# Altium integrated library texas.IntLib: 210 symbols (part 2 of 3)
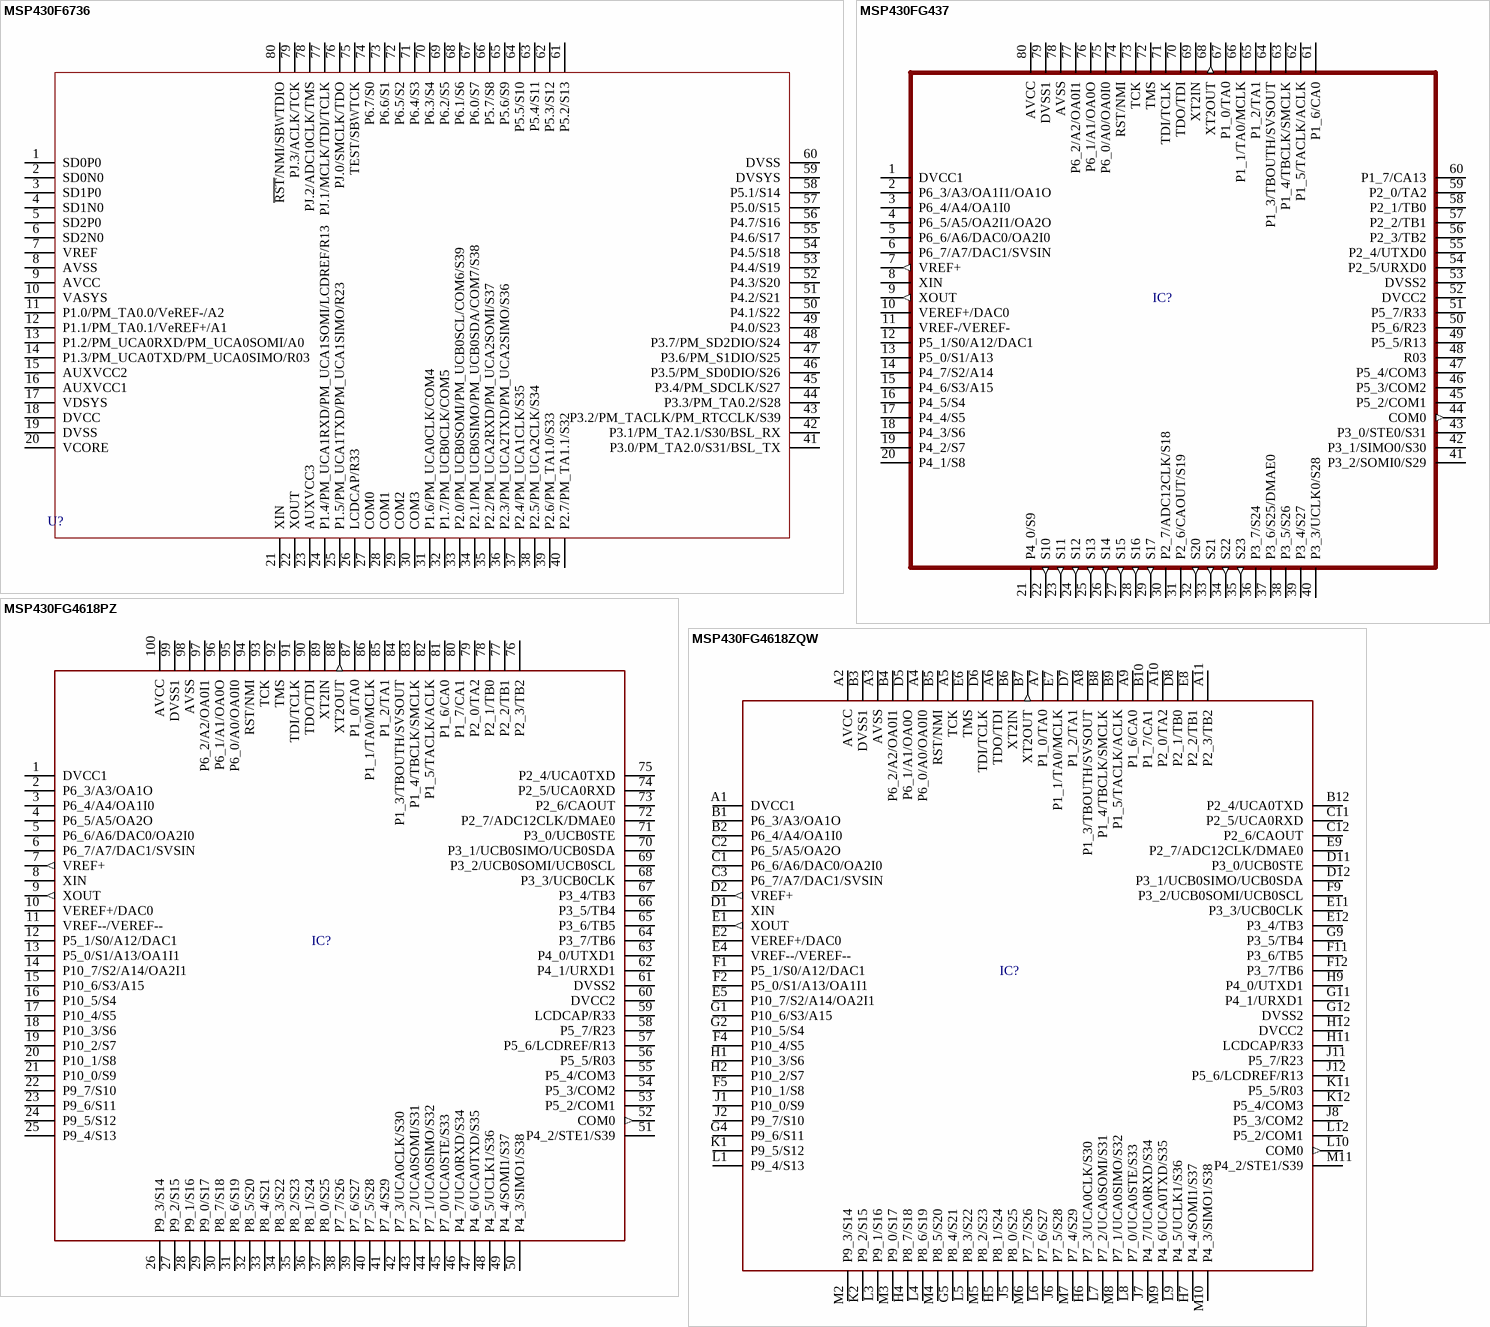
[diagram p14: symbols MSP430F6736 to MSP430FG4618ZQW]

## MSP430FG4618PZ
designator IC?, comment <b>MIXED SIGNAL MICROCONTROLLER</b><p> / Auto generated by <i>make-symbol-device-package-bsdl.ulp Rev. 19</i><br> / Source: http://focus.ti.com/docs/prod/folders/print/msp430fg4618.html  (value not drawn)
Part Number: MSP430FG4618IPZ; Vendor: TEXAS INSTRUMENTS
footprint TQFP100
pins: 1 DVCC1 (power), 2 P6_3/A3/OA1O, 3 P6_4/A4/OA1I0, 4 P6_5/A5/OA2O, 5 P6_6/A6/DAC0/OA2I0, 6 P6_7/A7/DAC1/SVSIN, 7 VREF+ (out), 8 XIN, 9 XOUT (out), 10 VEREF+/DAC0, 11 VREF--/VEREF--, 12 P5_1/S0/A12/DAC1, 13 P5_0/S1/A13/OA1I1, 14 P10_7/S2/A14/OA2I1, 15 P10_6/S3/A15, 16 P10_5/S4, 17 P10_4/S5, 18 P10_3/S6, 19 P10_2/S7, 20 P10_1/S8, 21 P10_0/S9, 22 P9_7/S10, 23 P9_6/S11, 24 P9_5/S12, 25 P9_4/S13, 26 P9_3/S14, 27 P9_2/S15, 28 P9_1/S16, 29 P9_0/S17, 30 P8_7/S18, 31 P8_6/S19, 32 P8_5/S20, 33 P8_4/S21, 34 P8_3/S22, 35 P8_2/S23, 36 P8_1/S24, 37 P8_0/S25, 38 P7_7/S26, 39 P7_6/S27, 40 P7_5/S28, 41 P7_4/S29, 42 P7_3/UCA0CLK/S30, 43 P7_2/UCA0SOMI/S31, 44 P7_1/UCA0SIMO/S32, 45 P7_0/UCA0STE/S33, 46 P4_7/UCA0RXD/S34, 47 P4_6/UCA0TXD/S35, 48 P4_5/UCLK1/S36, 49 P4_4/SOMI1/S37, 50 P4_3/SIMO1/S38, 51 P4_2/STE1/S39, 52 COM0 (out), 53 P5_2/COM1, 54 P5_3/COM2, 55 P5_4/COM3, 56 P5_5/R03, 57 P5_6/LCDREF/R13, 58 P5_7/R23, 59 LCDCAP/R33, 60 DVCC2 (power), 61 DVSS2 (power), 62 P4_1/URXD1, 63 P4_0/UTXD1, 64 P3_7/TB6, 65 P3_6/TB5, 66 P3_5/TB4, 67 P3_4/TB3, 68 P3_3/UCB0CLK, 69 P3_2/UCB0SOMI/UCB0SCL, 70 P3_1/UCB0SIMO/UCB0SDA, 71 P3_0/UCB0STE, 72 P2_7/ADC12CLK/DMAE0, 73 P2_6/CAOUT, 74 P2_5/UCA0RXD, 75 P2_4/UCA0TXD, 76 P2_3/TB2, 77 P2_2/TB1, 78 P2_1/TB0, 79 P2_0/TA2, 80 P1_7/CA1, 81 P1_6/CA0, 82 P1_5/TACLK/ACLK, 83 P1_4/TBCLK/SMCLK, 84 P1_3/TBOUTH/SVSOUT, 85 P1_2/TA1, 86 P1_1/TA0/MCLK, 87 P1_0/TA0, 88 XT2OUT (out), 89 XT2IN, 90 TDO/TDI, 91 TDI/TCLK, 92 TMS, 93 TCK, 94 RST/NMI, 95 P6_0/A0/OA0I0, 96 P6_1/A1/OA0O, 97 P6_2/A2/OA0I1, 98 AVSS (power), 99 DVSS1 (power), 100 AVCC (power)

## MSP430FG4618ZQW
designator IC?, comment <b>MIXED SIGNAL MICROCONTROLLER</b><p> / Auto generated by <i>make-symbol-device-package-bsdl.ulp Rev. 19</i><br> / Source: http://focus.ti.com/docs/prod/folders/print/msp430fg4618.html  (value not drawn)
Part Number: MSP430FG4618IZQW; Vendor: TEXAS INSTRUMENTS
footprint S-PBGA-N113
pins: A1 DVCC1 (power), A2 AVCC (power), A3 AVSS (power), A4 P6_0/A0/OA0I0, A5 TCK, A6 TDO/TDI, A7 P1_0/TA0, A8 P1_3/TBOUTH/SVSOUT, A9 P1_6/CA0, A10 P2_0/TA2, A11 P2_3/TB2, B1 P6_3/A3/OA1O, B2 P6_4/A4/OA1I0, B3 DVSS1 (power), B4 P6_2/A2/OA0I1, B5 RST/NMI, B6 XT2IN, B7 XT2OUT (out), B8 P1_4/TBCLK/SMCLK, B9 P1_5/TACLK/ACLK, B10 P1_7/CA1, B12 P2_4/UCA0TXD, C1 P6_6/A6/DAC0/OA2I0, C2 P6_5/A5/OA2O, C3 P6_7/A7/DAC1/SVSIN, C11 P2_5/UCA0RXD, C12 P2_6/CAOUT, D1 XIN, D2 VREF+ (out), D5 P6_1/A1/OA0O, D6 TDI/TCLK, D7 P1_2/TA1, D8 P2_1/TB0, D11 P3_0/UCB0STE, D12 P3_1/UCB0SIMO/UCB0SDA, E1 XOUT (out), E2 VEREF+/DAC0, E4 VREF--/VEREF--, E5 P10_7/S2/A14/OA2I1, E6 TMS, E7 P1_1/TA0/MCLK, E8 P2_2/TB1, E9 P2_7/ADC12CLK/DMAE0, E11 P3_3/UCB0CLK, E12 P3_4/TB3, F1 P5_1/S0/A12/DAC1, F2 P5_0/S1/A13/OA1I1, F4 P10_4/S5, F5 P10_1/S8, F9 P3_2/UCB0SOMI/UCB0SCL, F11 P3_6/TB5, F12 P3_7/TB6, G1 P10_6/S3/A15, G2 P10_5/S4, G4 P9_6/S11, G5 P8_4/S21, G9 P3_5/TB4, G11 P4_1/URXD1, G12 DVSS2 (power), H1 P10_3/S6, H2 P10_2/S7, H4 P8_7/S18, H5 P8_1/S24, H6 P7_3/UCA0CLK/S30, H7 P4_4/SOMI1/S37, H9 P4_0/UTXD1, H11 LCDCAP/R33, H12 DVCC2 (power), J1 P10_0/S9, J2 P9_7/S10, J5 P8_0/S25, J6 P7_5/S28, J7 P4_7/UCA0RXD/S34, J8 P5_3/COM2, J11 P5_7/R23, J12 P5_6/LCDREF/R13, K1 P9_5/S12, K2 P9_2/S15, K11 P5_5/R03, K12 P5_4/COM3, L1 P9_4/S13, L3 P9_1/S16, L4 P8_6/S19, L5 P8_3/S22, L6 P7_6/S27, L7 P7_2/UCA0SOMI/S31, L8 P7_0/UCA0STE/S33, L9 P4_5/UCLK1/S36, L10 COM0 (out), L12 P5_2/COM1, M2 P9_3/S14, M3 P9_0/S17, M4 P8_5/S20, M5 P8_2/S23, M6 P7_7/S26, M7 P7_4/S29, M8 P7_1/UCA0SIMO/S32, M9 P4_6/UCA0TXD/S35, M10 P4_3/SIMO1/S38, M11 P4_2/STE1/S39

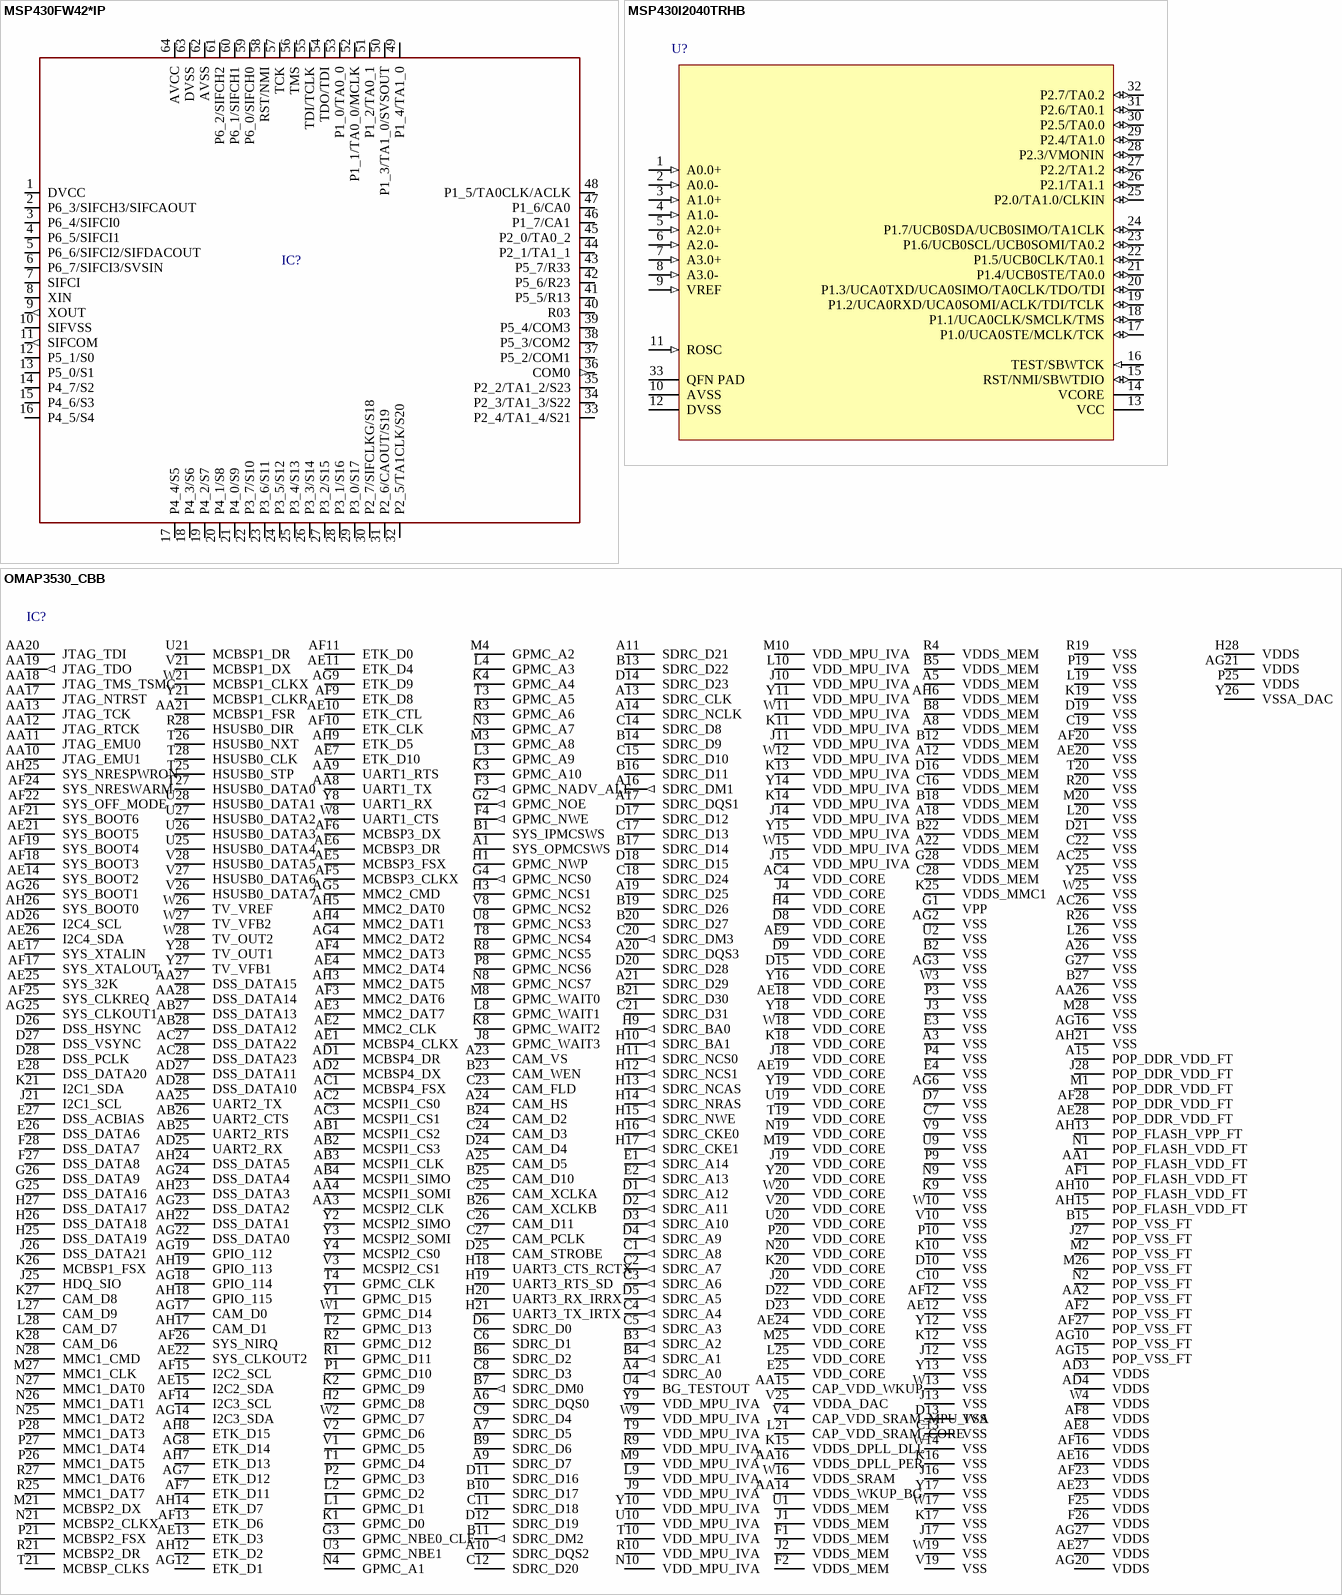
[diagram p6: symbols MSP430FW42*IP to OMAP3530_CBB]

## MSP430FW42*IP
designator IC?, comment <b>MIXED SIGNAL MICROCONTROLLER</b><p> / <i>created with make-symbol-device-package-bsdl - text option</i><br> / Source: www.ti.com .. MSP430 Microcontroller.pdf  (value not drawn)
Vendor: TEXAS INSTRUMENTS
footprint SQFP-S-10X10-64
pins: 1 DVCC (power), 2 P6_3/SIFCH3/SIFCAOUT, 3 P6_4/SIFCI0, 4 P6_5/SIFCI1, 5 P6_6/SIFCI2/SIFDACOUT, 6 P6_7/SIFCI3/SVSIN, 7 SIFCI, 8 XIN, 9 XOUT (out), 10 SIFVSS, 11 SIFCOM (out), 12 P5_1/S0, 13 P5_0/S1, 14 P4_7/S2, 15 P4_6/S3, 16 P4_5/S4, 17 P4_4/S5, 18 P4_3/S6, 19 P4_2/S7, 20 P4_1/S8, 21 P4_0/S9, 22 P3_7/S10, 23 P3_6/S11, 24 P3_5/S12, 25 P3_4/S13, 26 P3_3/S14, 27 P3_2/S15, 28 P3_1/S16, 29 P3_0/S17, 30 P2_7/SIFCLKG/S18, 31 P2_6/CAOUT/S19, 32 P2_5/TA1CLK/S20, 33 P2_4/TA1_4/S21, 34 P2_3/TA1_3/S22, 35 P2_2/TA1_2/S23, 36 COM0 (out), 37 P5_2/COM1, 38 P5_3/COM2, 39 P5_4/COM3, 40 R03, 41 P5_5/R13, 42 P5_6/R23, 43 P5_7/R33, 44 P2_1/TA1_1, 45 P2_0/TA0_2, 46 P1_7/CA1, 47 P1_6/CA0, 48 P1_5/TA0CLK/ACLK, 49 P1_4/TA1_0, 50 P1_3/TA1_0/SVSOUT, 51 P1_2/TA0_1, 52 P1_1/TA0_0/MCLK, 53 P1_0/TA0_0, 54 TDO/TDI, 55 TDI/TCLK, 56 TMS, 57 TCK, 58 RST/NMI, 59 P6_0/SIFCH0, 60 P6_1/SIFCH1, 61 P6_2/SIFCH2, 62 AVSS (power), 63 DVSS (power), 64 AVCC (power)

## MSP430I2040TRHB
designator U?
Part Number: MSP430I2040TRHB; Vendor: TEXAS INSTRUMENTS; Value: *
footprint QFN32-5x5 (QFN, 32-Leads, Body 5x5mm, Pitch 0.5mm, Thermal Pad 3.45x3.45mm, IPC Medium Density)
pins: 1 A0.0+ (in) "SD24 positive analog input A0.0.", 2 A0.0- (in) "SD24 negative analog input A0.0.", 3 A1.0+ (in) "SD24 positive analog input A1.0.", 4 A1.0- (in) "SD24 negative analog input A1.0.", 5 A2.0+ (in) "SD24 positive analog input A2.0.", 6 A2.0- (in) "SD24 negative analog input A2.0.", 7 A3.0+ (in) "SD24 positive analog input A1.0.", 8 A3.0- (in) "SD24 negative analog input A3.0.", 9 VREF (in) "SD24 external reference voltage input.", 10 AVSS (power) "Analog supply voltage, negative terminal.", 11 ROSC (in) "External resistor pin for DCO.", 12 DVSS (power) "Digital supply voltage, negative terminal.", 13 VCC (power) "Analog and digital supply voltage, positive terminal.", 14 VCORE "Regulated core power supply (internal use only, no external current loading).", 15 RST/NMI/SBWTDIO (io), 16 TEST/SBWTCK (in) "Selects test mode for JTAG pins on P1.0 to P1.3. Spy-Bi-Wire test clock input for device programming and test.", 17 P1.0/UCA0STE/MCLK/TCK (io), 18 P1.1/UCA0CLK/SMCLK/TMS (io), 19 P1.2/UCA0RXD/UCA0SOMI/ACLK/TDI/TCLK (io), 20 P1.3/UCA0TXD/UCA0SIMO/TA0CLK/TDO/TDI (io), 21 P1.4/UCB0STE/TA0.0 (io), 22 P1.5/UCB0CLK/TA0.1 (io), 23 P1.6/UCB0SCL/UCB0SOMI/TA0.2 (io), 24 P1.7/UCB0SDA/UCB0SIMO/TA1CLK (io), 25 P2.0/TA1.0/CLKIN (io), 26 P2.1/TA1.1 (io), 27 P2.2/TA1.2 (io), 28 P2.3/VMONIN (io), 29 P2.4/TA1.0 (io), 30 P2.5/TA0.0 (io), 31 P2.6/TA0.1 (io), 32 P2.7/TA0.2 (io), 33 QFN PAD (power) "QFN package pad. Connection to VSS is recommended."

## OMAP3530_CBB
designator IC?, comment <b>OMAP3530/25 Applications Processor</b> 600-MHz ARM Cortex?-A8 Core<p> / Auto generated by <i>make-symbol-device-package-bsdl.ulp Rev. 23</i><br> / Source: sprm315.bsd  (value not drawn)
Vendor: TEXAS INSTRUMENTS
footprint CBB
pins: A1 SYS_OPMCSWS, A3 VSS (power), A4 SDRC_A0 (out), A5 VDDS_MEM (power), A6 SDRC_DQS0, A7 SDRC_D5, A8 VDDS_MEM (power), A9 SDRC_D7, A10 SDRC_DQS2, A11 SDRC_D21, A12 VDDS_MEM (power), A13 SDRC_CLK, A14 SDRC_NCLK, A15 POP_DDR_VDD_FT (power), A16 SDRC_DM1 (out), A17 SDRC_DQS1, A18 VDDS_MEM (power), A19 SDRC_D25, A20 SDRC_DQS3, A21 SDRC_D29, A22 VDDS_MEM (power), A23 CAM_VS, A24 CAM_HS, A25 CAM_D5, A26 VSS (power), AA1 POP_FLASH_VDD_FT (power), AA2 POP_VSS_FT (power), AA3 MCSPI2_CLK, AA4 MCSPI1_SOMI, AA8 UART1_TX, AA9 UART1_RTS, AA10 JTAG_EMU1, AA11 JTAG_EMU0, AA12 JTAG_RTCK, AA13 JTAG_TCK, AA14 VDDS_WKUP_BG (power), AA15 CAP_VDD_WKUP (power), AA16 VDDS_DPLL_PER (power), AA17 JTAG_NTRST, AA18 JTAG_TMS_TSMC, AA19 JTAG_TDO (out), AA20 JTAG_TDI, AA21 MCBSP1_FSR, AA25 UART2_TX, AA26 VSS (power), AA27 DSS_DATA15, AA28 DSS_DATA14, AB1 MCSPI1_CS2, AB2 MCSPI1_CS3, AB3 MCSPI1_CLK, AB4 MCSPI1_SIMO, AB25 UART2_RTS, AB26 UART2_CTS, AB27 DSS_DATA13, AB28 DSS_DATA12, AC1 MCBSP4_FSX, AC2 MCSPI1_CS0, AC3 MCSPI1_CS1, AC4 VDD_CORE (power), AC25 VSS (power), AC26 VSS (power), AC27 DSS_DATA22, AC28 DSS_DATA23, AD1 MCBSP4_DR, AD2 MCBSP4_DX, AD3 VDDS (power), AD4 VDDS (power), AD25 UART2_RX, AD26 I2C4_SCL, AD27 DSS_DATA11, AD28 DSS_DATA10, AE1 MCBSP4_CLKX, AE2 MMC2_CLK, AE3 MMC2_DAT7, AE4 MMC2_DAT4, AE5 MCBSP3_FSX, AE6 MCBSP3_DR, AE7 ETK_D10, AE8 VDDS (power), AE9 VDD_CORE (power), AE10 ETK_CTL, AE11 ETK_D4, AE12 VSS (power), AE13 ETK_D3, AE14 SYS_BOOT2, AE15 I2C2_SDA, AE16 VDDS (power), AE17 SYS_XTALIN, AE18 VDD_CORE (power), AE19 VDD_CORE (power), AE20 VSS (power), AE21 SYS_BOOT5, AE22 SYS_CLKOUT2, AE23 VDDS (power), AE24 VDD_CORE (power), AE25 SYS_32K, AE26 I2C4_SDA, AE27 VDDS (power), AE28 POP_DDR_VDD_FT (power), AF1 POP_FLASH_VDD_FT (power), AF2 POP_VSS_FT (power), AF3 MMC2_DAT6, AF4 MMC2_DAT3, AF5 MCBSP3_CLKX, AF6 MCBSP3_DX, AF7 ETK_D11, AF8 VDDS (power), AF9 ETK_D8, AF10 ETK_CLK, AF11 ETK_D0, AF12 VSS (power), AF13 ETK_D6, AF14 I2C3_SCL, AF15 I2C2_SCL, AF16 VDDS (power), AF17 SYS_XTALOUT, AF18 SYS_BOOT3, AF19 SYS_BOOT4, AF20 VSS (power), AF21 SYS_BOOT6, AF22 SYS_OFF_MODE, AF23 VDDS (power), AF24 SYS_NRESWARM, AF25 SYS_CLKREQ, AF26 SYS_NIRQ, AF27 POP_VSS_FT (power), AF28 POP_DDR_VDD_FT (power), AG2 VSS (power), AG3 VSS (power), AG4 MMC2_DAT2, AG5 MMC2_CMD, AG6 VSS (power), AG7 ETK_D12, AG8 ETK_D14, AG9 ETK_D9, AG10 POP_VSS_FT (power), AG12 ETK_D1, AG14 I2C3_SDA, AG15 POP_VSS_FT (power), AG16 VSS (power), AG17 CAM_D0, AG18 GPIO_114, AG19 GPIO_112, AG20 VDDS (power), AG21 VDDS (power), AG22 DSS_DATA0, AG23 DSS_DATA2, AG24 DSS_DATA4, AG25 SYS_CLKOUT1, AG26 SYS_BOOT1, AG27 VDDS (power), AH3 MMC2_DAT5, AH4 MMC2_DAT1, AH5 MMC2_DAT0, AH6 VDDS_MEM (power), AH7 ETK_D13, AH8 ETK_D15, AH9 ETK_D5, AH10 POP_FLASH_VDD_FT (power), AH12 ETK_D2, AH13 POP_FLASH_VPP_FT, AH14 ETK_D7, AH15 POP_FLASH_VDD_FT (power), AH17 CAM_D1, AH18 GPIO_115, AH19 GPIO_113, AH21 VSS (power), AH22 DSS_DATA1, AH23 DSS_DATA3, AH24 DSS_DATA5, AH25 SYS_NRESPWRON, AH26 SYS_BOOT0, B1 SYS_IPMCSWS, B2 VSS (power), B3 SDRC_A2 (out), B4 SDRC_A1 (out), B5 VDDS_MEM (power), B6 SDRC_D2, B7 SDRC_DM0 (out), B8 VDDS_MEM (power), B9 SDRC_D6, B10 SDRC_D17, B11 SDRC_DM2 (out), B12 VDDS_MEM (power), B13 SDRC_D22, B14 SDRC_D9, B15 POP_VSS_FT (power), B16 SDRC_D11, B17 SDRC_D14, B18 VDDS_MEM (power), B19 SDRC_D26, B20 SDRC_D27, B21 SDRC_D30, B22 VDDS_MEM (power), B23 CAM_WEN, B24 CAM_D2, B25 CAM_D10, B26 CAM_XCLKB, B27 VSS (power), C1 SDRC_A8 (out), C2 SDRC_A7 (out), C3 SDRC_A6 (out), C4 SDRC_A4 (out), C5 SDRC_A3 (out), C6 SDRC_D1, C7 VSS (power), C8 SDRC_D3, C9 SDRC_D4, C10 VSS (power), C11 SDRC_D18, C12 SDRC_D20, C13 VSS (power), C14 SDRC_D8, C15 SDRC_D10, C16 VDDS_MEM (power), C17 SDRC_D13, C18 SDRC_D24, C19 VSS (power), C20 SDRC_DM3 (out), C21 SDRC_D31, C22 VSS (power), C23 CAM_FLD, C24 CAM_D3, C25 CAM_XCLKA, C26 CAM_D11, C27 CAM_PCLK, C28 VDDS_MEM (power), D1 SDRC_A12 (out), D2 SDRC_A11 (out), D3 SDRC_A10 (out), D4 SDRC_A9 (out), D5 SDRC_A5 (out), D6 SDRC_D0, D7 VSS (power), D8 VDD_CORE (power), D9 VDD_CORE (power), D10 VSS (power), D11 SDRC_D16, D12 SDRC_D19, D13 VSS (power), D14 SDRC_D23, D15 VDD_CORE (power), D16 VDDS_MEM (power), D17 SDRC_D12, D18 SDRC_D15, D19 VSS (power), D20 SDRC_D28, D21 VSS (power), D22 VDD_CORE (power), D23 VDD_CORE (power), D24 CAM_D4, D25 CAM_STROBE, D26 DSS_HSYNC, D27 DSS_VSYNC, D28 DSS_PCLK, E1 SDRC_A14 (out), E2 SDRC_A13 (out), E3 VSS (power), E4 VSS (power), E25 VDD_CORE (power), E26 DSS_DATA6, E27 DSS_ACBIAS, E28 DSS_DATA20, F1 VDDS_MEM (power), F2 VDDS_MEM (power), F3 GPMC_NADV_ALE (out), F4 GPMC_NWE (out), F25 VDDS (power), F26 VDDS (power), F27 DSS_DATA8, F28 DSS_DATA7, G1 VPP, G2 GPMC_NOE (out), G3 GPMC_NBE0_CLE, G4 GPMC_NCS0 (out), G25 DSS_DATA16, G26 DSS_DATA9, G27 VSS (power), G28 VDDS_MEM (power), H1 GPMC_NWP, H2 GPMC_D8, H3 GPMC_NCS1, H4 VDD_CORE (power), H9 SDRC_BA0 (out), H10 SDRC_BA1 (out), H11 SDRC_NCS0 (out), H12 SDRC_NCS1 (out), H13 SDRC_NCAS (out), H14 SDRC_NRAS (out), H15 SDRC_NWE (out), H16 SDRC_CKE0 (out), H17 SDRC_CKE1 (out), H18 UART3_CTS_RCTX, H19 UART3_RTS_SD, H20 UART3_RX_IRRX, H21 UART3_TX_IRTX, H25 DSS_DATA19, H26 DSS_DATA18, H27 DSS_DATA17, H28 VDDS (power), J1 VDDS_MEM (power), J2 VDDS_MEM (power), J3 VSS (power), J4 VDD_CORE (power), J8 GPMC_WAIT3, J9 VDD_MPU_IVA (power), J10 VDD_MPU_IVA (power), J11 VDD_MPU_IVA (power), J12 VSS (power), J13 VSS (power), J14 VDD_MPU_IVA (power), J15 VDD_MPU_IVA (power), J16 VSS (power), J17 VSS (power), J18 VDD_CORE (power), J19 VDD_CORE (power), J20 VDD_CORE (power), J21 I2C1_SCL, J25 HDQ_SIO, J26 DSS_DATA21, J27 POP_VSS_FT (power), J28 POP_DDR_VDD_FT (power), K1 GPMC_D0, K2 GPMC_D9, K3 GPMC_A10, K4 GPMC_A4, K8 GPMC_WAIT2, K9 VSS (power), K10 VSS (power), K11 VDD_MPU_IVA (power), K12 VSS (power), K13 VDD_MPU_IVA (power), K14 VDD_MPU_IVA (power), K15 VDDS_DPLL_DLL (power), K16 VSS (power), K17 VSS (power), K18 VDD_CORE (power), K19 VSS (power), K20 VDD_CORE (power), K21 I2C1_SDA, K25 VDDS_MMC1 (power), K26 MCBSP1_FSX, K27 CAM_D8, K28 CAM_D6, L1 GPMC_D1, L2 GPMC_D2, L3 GPMC_A9, L4 GPMC_A3, L8 GPMC_WAIT1, L9 VDD_MPU_IVA (power), L10 VDD_MPU_IVA (power), L19 VSS (power), L20 VSS (power), L21 CAP_VDD_SRAM_CORE (power), L25 VDD_CORE (power), L26 VSS (power), L27 CAM_D9, L28 CAM_D7, M1 POP_DDR_VDD_FT (power), M2 POP_VSS_FT (power), M3 GPMC_A8, M4 GPMC_A2, M8 GPMC_WAIT0, M9 VDD_MPU_IVA (power), M10 VDD_MPU_IVA (power), M19 VDD_CORE (power), M20 VSS (power), M21 MCBSP2_DX, M25 VDD_CORE (power), M26 POP_VSS_FT (power), M27 MMC1_CLK, M28 VSS (power), N1 POP_FLASH_VDD_FT (power), N2 POP_VSS_FT (power), N3 GPMC_A7, N4 GPMC_A1, N8 GPMC_NCS7, N9 VSS (power), N10 VDD_MPU_IVA (power), N19 VDD_CORE (power), N20 VDD_CORE (power), N21 MCBSP2_CLKX, N25 MMC1_DAT2, N26 MMC1_DAT1, N27 MMC1_DAT0, N28 MMC1_CMD, P1 GPMC_D10, P2 GPMC_D3, P3 VSS (power), P4 VSS (power), P8 GPMC_NCS6, P9 VSS (power), P10 VSS (power), P19 VSS (power), P20 VDD_CORE (power), P21 MCBSP2_FSX, P25 VDDS (power), P26 MMC1_DAT5, P27 MMC1_DAT4, P28 MMC1_DAT3, R1 GPMC_D11, R2 GPMC_D12, R3 GPMC_A6, R4 VDDS_MEM (power), R8 GPMC_NCS5, R9 VDD_MPU_IVA (power), R10 VDD_MPU_IVA (power), R19 VSS (power), R20 VSS (power), R21 MCBSP2_DR, R25 MMC1_DAT7, R26 VSS (power), R27 MMC1_DAT6, R28 HSUSB0_DIR, T1 GPMC_D4, T2 GPMC_D13, T3 GPMC_A5, T4 GPMC_CLK, T8 GPMC_NCS4, T9 VDD_MPU_IVA (power), T10 VDD_MPU_IVA (power), T19 VDD_CORE (power), T20 VSS (power), T21 MCBSP_CLKS, T25 HSUSB0_STP, T26 HSUSB0_NXT, T27 HSUSB0_DATA0, T28 HSUSB0_CLK, U1 VDDS_MEM (power), U2 VSS (power), U3 GPMC_NBE1, U4 BG_TESTOUT, U8 GPMC_NCS3, U9 VSS (power), U10 VDD_MPU_IVA (power), U19 VDD_CORE (power), U20 VDD_CORE (power), U21 MCBSP1_DR, U25 HSUSB0_DATA4, U26 HSUSB0_DATA3, U27 HSUSB0_DATA2, U28 HSUSB0_DATA1, V1 GPMC_D5, V2 GPMC_D6, V3 MCSPI2_CS1, V4 CAP_VDD_SRAM_MPU_IVA (power), V8 GPMC_NCS2, V9 VSS (power), V10 VSS (power), V19 VSS (power), V20 VDD_CORE (power), V21 MCBSP1_DX, V25 VDDA_DAC (power), V26 HSUSB0_DATA7, V27 HSUSB0_DATA6, V28 HSUSB0_DATA5, W1 GPMC_D14, W2 GPMC_D7, W3 VSS (power), W4 VDDS (power), W8 UART1_CTS, W9 VDD_MPU_IVA (power), W10 VSS (power), W11 VDD_MPU_IVA (power), W12 VDD_MPU_IVA (power), W13 VSS (power), W14 VSS (power), W15 VDD_MPU_IVA (power), W16 VDDS_SRAM (power), W17 VSS (power), W18 VDD_CORE (power), W19 VSS (power), W20 VDD_CORE (power), W21 MCBSP1_CLKX, W25 VSS (power), W26 TV_VREF, W27 TV_VFB2, W28 TV_OUT2, Y1 GPMC_D15, Y2 MCSPI2_SIMO, Y3 MCSPI2_SOMI, Y4 MCSPI2_CS0, Y8 UART1_RX, Y9 VDD_MPU_IVA (power), Y10 VDD_MPU_IVA (power), Y11 VDD_MPU_IVA (power), Y12 VSS (power), Y13 VSS (power), Y14 VDD_MPU_IVA (power), Y15 VDD_MPU_IVA (power), Y16 VDD_CORE (power), Y17 VSS (power), Y18 VDD_CORE (power), Y19 VDD_CORE (power), Y20 VDD_CORE (power), Y21 MCBSP1_CLKR, Y25 VSS (power), Y26 VSSA_DAC (power), Y27 TV_VFB1, Y28 TV_OUT1

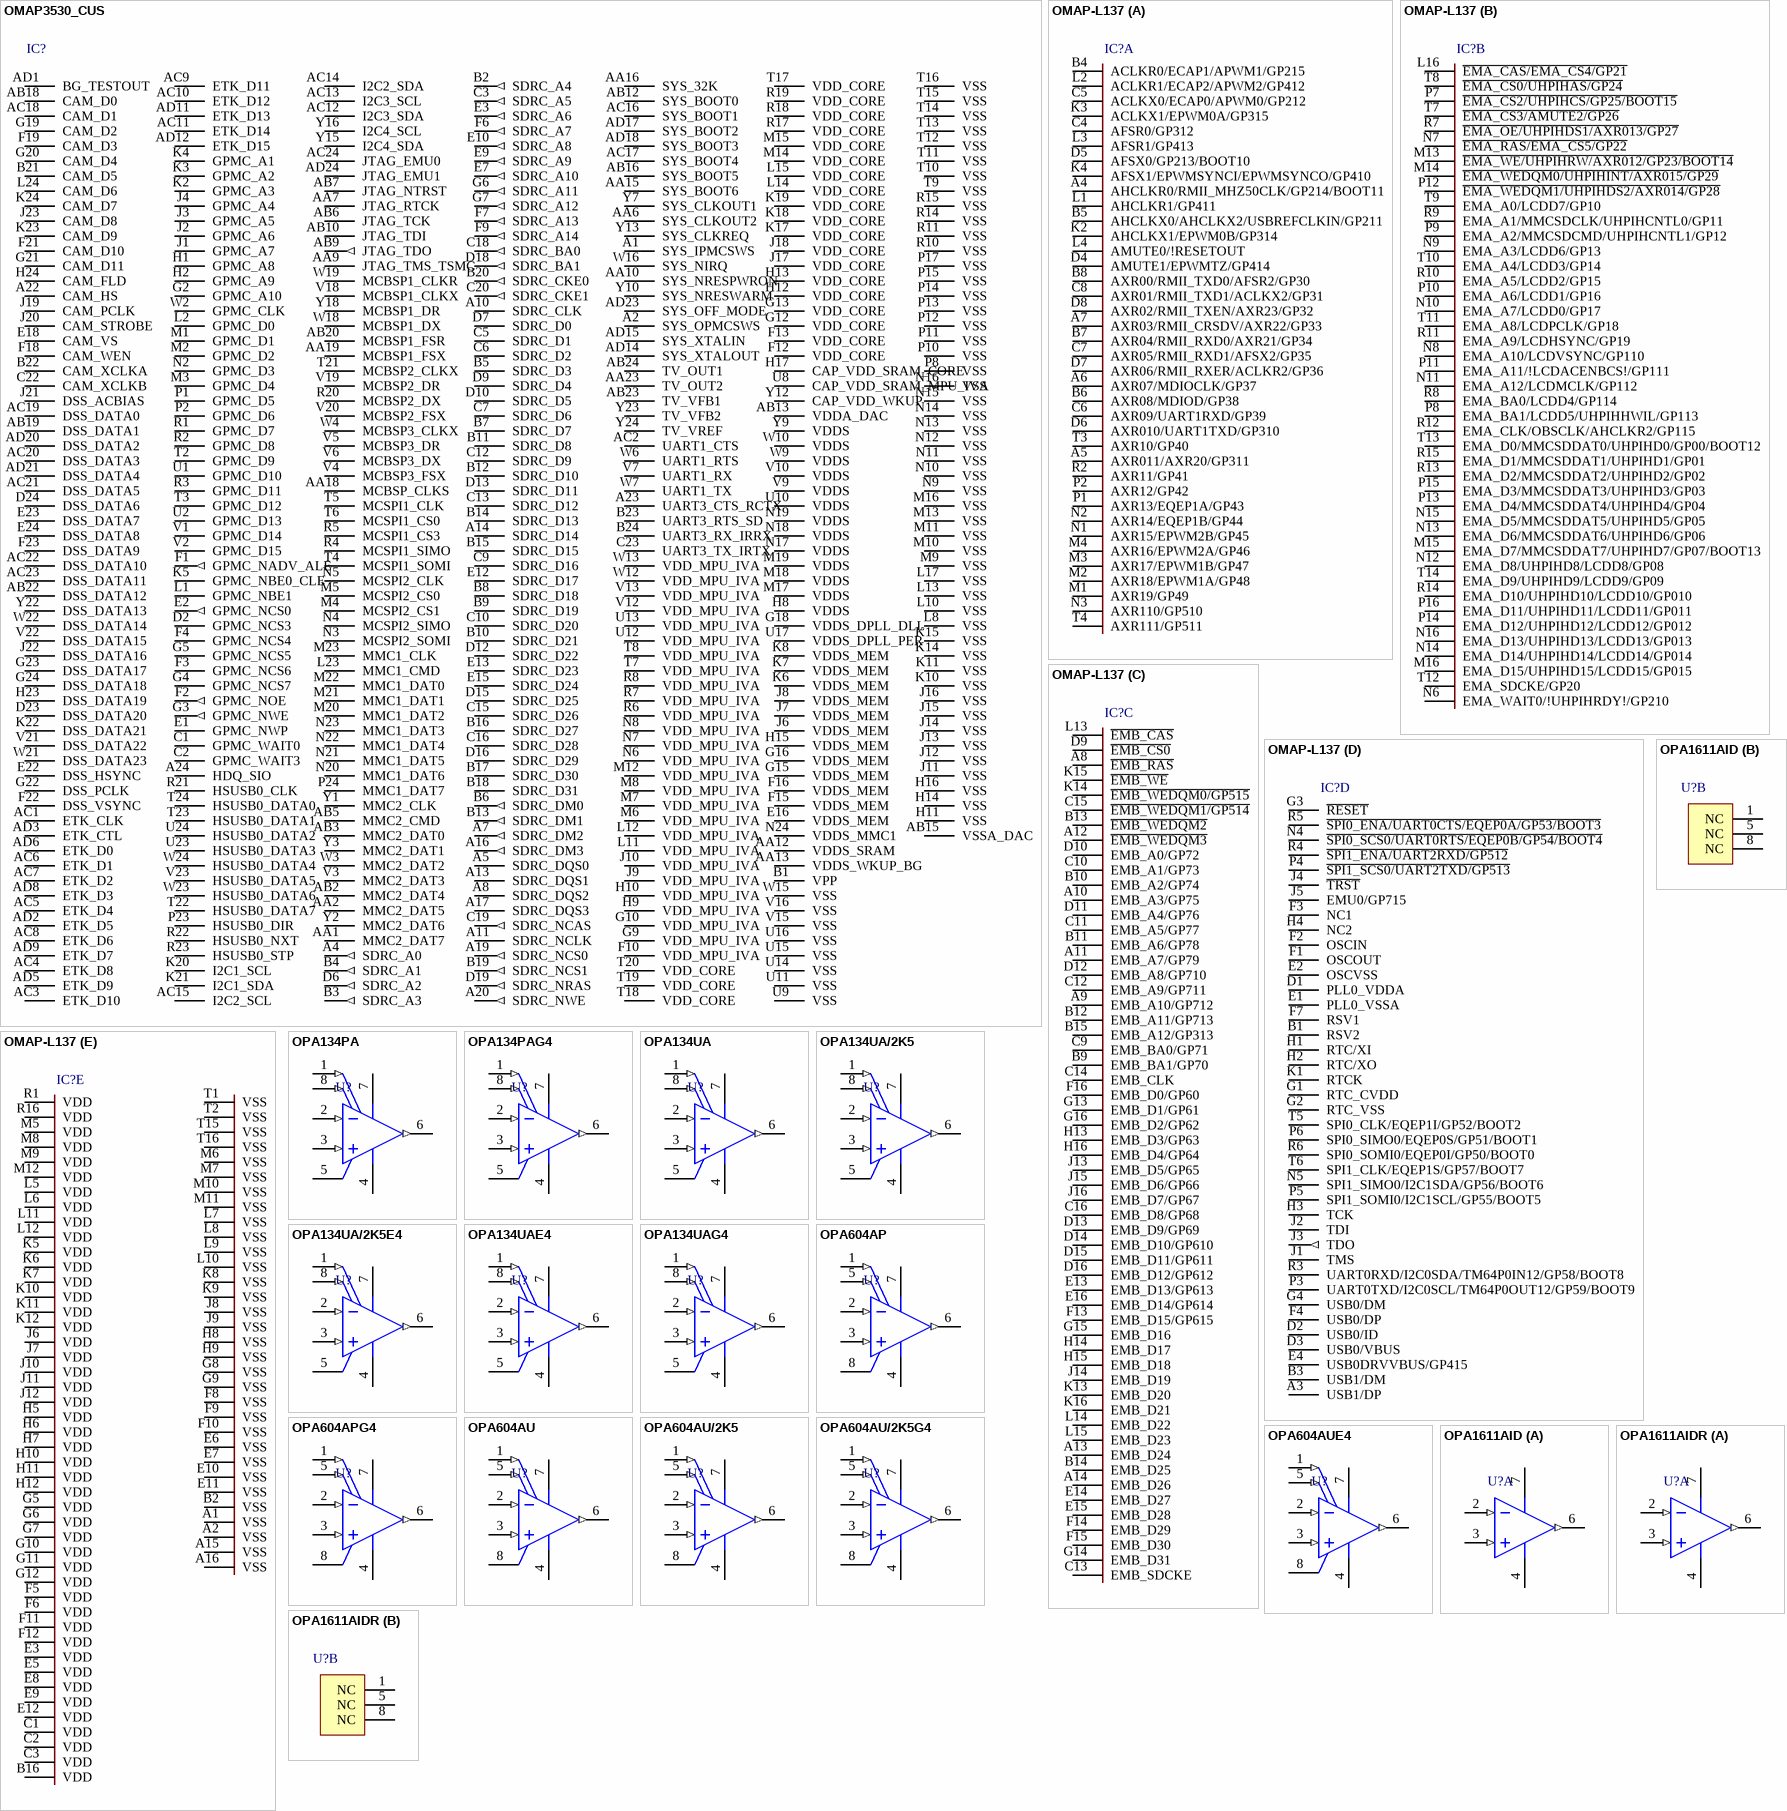
[diagram p7: symbols OMAP3530_CUS to OPA1611AIDR]

## OMAP3530_CUS
designator IC?, comment <b>OMAP 3530/25 Applications Processor</b> 600-MHz ARM Cortex?-A8 Core<p> / Auto generated by <i>make-symbol-device-package-bsdl.ulp Rev. 23</i><br> / Source: sprm314.bsd  (value not drawn)
Vendor: TEXAS INSTRUMENTS
footprint CUS
pins: A1 SYS_IPMCSWS, A2 SYS_OPMCSWS, A4 SDRC_A0 (out), A5 SDRC_DQS0, A7 SDRC_DM2 (out), A8 SDRC_DQS2, A10 SDRC_CLK, A11 SDRC_NCLK, A13 SDRC_DQS1, A14 SDRC_D14, A16 SDRC_DM3 (out), A17 SDRC_DQS3, A19 SDRC_NCS0 (out), A20 SDRC_NWE (out), A22 CAM_HS, A23 UART3_CTS_RCTX, A24 HDQ_SIO, AA1 MMC2_DAT7, AA2 MMC2_DAT5, AA6 SYS_CLKOUT2, AA7 JTAG_RTCK, AA9 JTAG_TMS_TSMC, AA10 SYS_NRESPWRON, AA12 VDDS_SRAM (power), AA13 VDDS_WKUP_BG (power), AA15 SYS_BOOT6, AA16 SYS_32K, AA18 MCBSP_CLKS, AA19 MCBSP1_FSX, AA23 TV_OUT2, AB2 MMC2_DAT4, AB3 MMC2_DAT0, AB5 MMC2_CMD, AB6 JTAG_TCK, AB7 JTAG_NTRST, AB9 JTAG_TDO (out), AB10 JTAG_TDI, AB12 SYS_BOOT0, AB13 VDDA_DAC (power), AB15 VSSA_DAC (power), AB16 SYS_BOOT5, AB18 CAM_D0, AB19 DSS_DATA1, AB20 MCBSP1_FSR, AB22 DSS_DATA12, AB23 TV_VFB1, AB24 TV_OUT1, AC1 ETK_CLK, AC2 UART1_CTS, AC3 ETK_D10, AC4 ETK_D8, AC5 ETK_D4, AC6 ETK_D1, AC7 ETK_D2, AC8 ETK_D6, AC9 ETK_D11, AC10 ETK_D12, AC11 ETK_D14, AC12 I2C3_SDA, AC13 I2C3_SCL, AC14 I2C2_SDA, AC15 I2C2_SCL, AC16 SYS_BOOT1, AC17 SYS_BOOT4, AC18 CAM_D1, AC19 DSS_DATA0, AC20 DSS_DATA3, AC21 DSS_DATA5, AC22 DSS_DATA10, AC23 DSS_DATA11, AC24 JTAG_EMU0, AD1 BG_TESTOUT, AD2 ETK_D5, AD3 ETK_CTL, AD5 ETK_D9, AD6 ETK_D0, AD8 ETK_D3, AD9 ETK_D7, AD11 ETK_D13, AD12 ETK_D15, AD14 SYS_XTALOUT, AD15 SYS_XTALIN, AD17 SYS_BOOT2, AD18 SYS_BOOT3, AD20 DSS_DATA2, AD21 DSS_DATA4, AD23 SYS_OFF_MODE, AD24 JTAG_EMU1, B1 VPP, B2 SDRC_A4 (out), B3 SDRC_A3 (out), B4 SDRC_A1 (out), B5 SDRC_D3, B6 SDRC_DM0 (out), B7 SDRC_D7, B8 SDRC_D18, B9 SDRC_D19, B10 SDRC_D21, B11 SDRC_D8, B12 SDRC_D10, B13 SDRC_DM1 (out), B14 SDRC_D13, B15 SDRC_D15, B16 SDRC_D27, B17 SDRC_D30, B18 SDRC_D31, B19 SDRC_NCS1 (out), B20 SDRC_CKE0 (out), B21 CAM_D5, B22 CAM_XCLKA, B23 UART3_RTS_SD, B24 UART3_RX_IRRX, C1 GPMC_WAIT0, C2 GPMC_WAIT3, C3 SDRC_A5 (out), C5 SDRC_D1, C6 SDRC_D2, C7 SDRC_D6, C9 SDRC_D16, C10 SDRC_D20, C12 SDRC_D9, C13 SDRC_D12, C15 SDRC_D26, C16 SDRC_D28, C18 SDRC_BA0 (out), C19 SDRC_NCAS (out), C20 SDRC_CKE1 (out), C22 CAM_XCLKB, C23 UART3_TX_IRTX, D2 GPMC_NCS3, D6 SDRC_A2 (out), D7 SDRC_D0, D9 SDRC_D4, D10 SDRC_D5, D12 SDRC_D22, D13 SDRC_D11, D15 SDRC_D25, D16 SDRC_D29, D18 SDRC_BA1 (out), D19 SDRC_NRAS (out), D23 DSS_DATA20, D24 DSS_DATA6, E1 GPMC_NWP, E2 GPMC_NCS0 (out), E3 SDRC_A6 (out), E7 SDRC_A10 (out), E9 SDRC_A9 (out), E10 SDRC_A8 (out), E12 SDRC_D17, E13 SDRC_D23, E15 SDRC_D24, E16 VDDS_MEM (power), E18 CAM_VS, E22 DSS_HSYNC, E23 DSS_DATA7, E24 DSS_DATA8, F1 GPMC_NADV_ALE (out), F2 GPMC_NOE (out), F3 GPMC_NCS6, F4 GPMC_NCS4, F6 SDRC_A7 (out), F7 SDRC_A13 (out), F9 SDRC_A14 (out), F10 VDD_MPU_IVA (power), F12 VDD_CORE (power), F13 VDD_CORE (power), F15 VDDS_MEM (power), F16 VDDS_MEM (power), F18 CAM_WEN, F19 CAM_D3, F21 CAM_D10, F22 DSS_VSYNC, F23 DSS_DATA9, G2 GPMC_A10, G3 GPMC_NWE (out), G4 GPMC_NCS7, G5 GPMC_NCS5, G6 SDRC_A11 (out), G7 SDRC_A12 (out), G9 VDD_MPU_IVA (power), G10 VDD_MPU_IVA (power), G12 VDD_CORE (power), G13 VDD_CORE (power), G15 VDDS_MEM (power), G16 VDDS_MEM (power), G18 VDDS_DPLL_DLL (power), G19 CAM_D2, G20 CAM_D4, G21 CAM_D11, G22 DSS_PCLK, G23 DSS_DATA17, G24 DSS_DATA18, H1 GPMC_A8, H2 GPMC_A9, H8 VDDS (power), H9 VDD_MPU_IVA (power), H10 VDD_MPU_IVA (power), H11 VSS (power), H12 VDD_CORE (power), H13 VDD_CORE (power), H14 VSS (power), H15 VDDS_MEM (power), H16 VSS (power), H17 CAP_VDD_SRAM_CORE (power), H23 DSS_DATA19, H24 CAM_FLD, J1 GPMC_A7, J2 GPMC_A6, J3 GPMC_A5, J4 GPMC_A4, J6 VDDS_MEM (power), J7 VDDS_MEM (power), J8 VDDS_MEM (power), J9 VDD_MPU_IVA (power), J10 VDD_MPU_IVA (power), J11 VSS (power), J12 VSS (power), J13 VSS (power), J14 VSS (power), J15 VSS (power), J16 VSS (power), J17 VDD_CORE (power), J18 VDD_CORE (power), J19 CAM_PCLK, J20 CAM_STROBE, J21 DSS_ACBIAS, J22 DSS_DATA16, J23 CAM_D8, K2 GPMC_A3, K3 GPMC_A2, K4 GPMC_A1, K5 GPMC_NBE0_CLE, K6 VDDS_MEM (power), K7 VDDS_MEM (power), K8 VDDS_MEM (power), K10 VSS (power), K11 VSS (power), K14 VSS (power), K15 VSS (power), K17 VDD_CORE (power), K18 VDD_CORE (power), K19 VDD_CORE (power), K20 I2C1_SCL, K21 I2C1_SDA, K22 DSS_DATA21, K23 CAM_D9, K24 CAM_D7, L1 GPMC_NBE1, L2 GPMC_D0, L8 VSS (power), L10 VSS (power), L11 VDD_MPU_IVA (power), L12 VDD_MPU_IVA (power), L13 VSS (power), L14 VDD_CORE (power), L15 VDD_CORE (power), L17 VSS (power), L23 MMC1_CMD, L24 CAM_D6, M1 GPMC_D1, M2 GPMC_D2, M3 GPMC_D4, M4 MCSPI2_CS1, M5 MCSPI2_CS0, M6 VDD_MPU_IVA (power), M7 VDD_MPU_IVA (power), M8 VDD_MPU_IVA (power), M9 VSS (power), M10 VSS (power), M11 VSS (power), M12 VDD_MPU_IVA (power), M13 VSS (power), M14 VDD_CORE (power), M15 VDD_CORE (power), M16 VSS (power), M17 VDDS (power), M18 VDDS (power), M19 VDDS (power), M20 MMC1_DAT2, M21 MMC1_DAT1, M22 MMC1_DAT0, M23 MMC1_CLK, N2 GPMC_D3, N3 MCSPI2_SOMI, N4 MCSPI2_SIMO, N5 MCSPI2_CLK, N6 VDD_MPU_IVA (power), N7 VDD_MPU_IVA (power), N8 VDD_MPU_IVA (power), N9 VSS (power), N10 VSS (power), N11 VSS (power), N12 VSS (power), N13 VSS (power), N14 VSS (power), N15 VSS (power), N16 VSS (power), N17 VDDS (power), N18 VDDS (power), N19 VDDS (power), N20 MMC1_DAT6, N21 MMC1_DAT5, N22 MMC1_DAT4, N23 MMC1_DAT3, N24 VDDS_MMC1 (power), P1 GPMC_D5, P2 GPMC_D6, P8 VSS (power), P10 VSS (power), P11 VSS (power), P12 VSS (power), P13 VSS (power), P14 VSS (power), P15 VSS (power), P17 VSS (power), P23 HSUSB0_DIR, P24 MMC1_DAT7, R1 GPMC_D7, R2 GPMC_D8, R3 GPMC_D11, R4 MCSPI1_SIMO, R5 MCSPI1_CS3, R6 VDD_MPU_IVA (power), R7 VDD_MPU_IVA (power), R8 VDD_MPU_IVA (power), R10 VSS (power), R11 VSS (power), R14 VSS (power), R15 VSS (power), R17 VDD_CORE (power), R18 VDD_CORE (power), R19 VDD_CORE (power), R20 MCBSP2_DX, R21 HSUSB0_CLK, R22 HSUSB0_NXT, R23 HSUSB0_STP, T2 GPMC_D9, T3 GPMC_D12, T4 MCSPI1_SOMI, T5 MCSPI1_CLK, T6 MCSPI1_CS0, T7 VDD_MPU_IVA (power), T8 VDD_MPU_IVA (power), T9 VSS (power), T10 VSS (power), T11 VSS (power), T12 VSS (power), T13 VSS (power), T14 VSS (power), T15 VSS (power), T16 VSS (power), T17 VDD_CORE (power), T18 VDD_CORE (power), T19 VDD_CORE (power), T20 VDD_CORE (power), T21 MCBSP2_CLKX, T22 HSUSB0_DATA7, T23 HSUSB0_DATA1, T24 HSUSB0_DATA0, U1 GPMC_D10, U2 GPMC_D13, U8 CAP_VDD_SRAM_MPU_IVA (power), U9 VSS (power), U10 VDDS (power), U11 VSS (power), U12 VDD_MPU_IVA (power), U13 VDD_MPU_IVA (power), U14 VSS (power), U15 VSS (power), U16 VSS (power), U17 VDDS_DPLL_PER (power), U23 HSUSB0_DATA3, U24 HSUSB0_DATA2, V1 GPMC_D14, V2 GPMC_D15, V3 MMC2_DAT3, V4 MCBSP3_FSX, V5 MCBSP3_DR, V6 MCBSP3_DX, V7 UART1_RX, V9 VDDS (power), V10 VDDS (power), V12 VDD_MPU_IVA (power), V13 VDD_MPU_IVA (power), V15 VSS (power), V16 VSS (power), V18 MCBSP1_CLKX, V19 MCBSP2_DR, V20 MCBSP2_FSX, V21 DSS_DATA22, V22 DSS_DATA15, V23 HSUSB0_DATA5, W2 GPMC_CLK, W3 MMC2_DAT2, W4 MCBSP3_CLKX, W6 UART1_RTS, W7 UART1_TX, W9 VDDS (power), W10 VDDS (power), W12 VDD_MPU_IVA (power), W13 VDD_MPU_IVA (power), W15 VSS (power), W16 SYS_NIRQ, W18 MCBSP1_DX, W19 MCBSP1_CLKR, W21 DSS_DATA23, W22 DSS_DATA14, W23 HSUSB0_DATA6, W24 HSUSB0_DATA4, Y1 MMC2_CLK, Y2 MMC2_DAT6, Y3 MMC2_DAT1, Y7 SYS_CLKOUT1, Y9 VDDS (power), Y10 SYS_NRESWARM, Y12 CAP_VDD_WKUP (power), Y13 SYS_CLKREQ, Y15 I2C4_SDA, Y16 I2C4_SCL, Y18 MCBSP1_DR, Y22 DSS_DATA13, Y23 TV_VFB2, Y24 TV_VREF

## OMAP-L137
designator IC?, comment <b>OMAP-L137 Low-Power Applications Processor</b><p> / Auto generated by <i>make-symbol-device-package-bsdl.ulp Rev. 29</i><br> / Source: sprm328.bsm<br> / http://focus.ti.com/lit/ds/symlink/omap-l137.pdf  (value not drawn)
Part Number: OMAP-L137 EVAL; Vendor: TEXAS INSTRUMENTS
footprint ZKB_S-PBGA-N256
part A pins: A4 AHCLKR0/RMII_MHZ50CLK/GP214/BOOT11, A5 AXR011/AXR20/GP311, A6 AXR07/MDIOCLK/GP37, A7 AXR03/RMII_CRSDV/AXR22/GP33, B4 ACLKR0/ECAP1/APWM1/GP215, B5 AHCLKX0/AHCLKX2/USBREFCLKIN/GP211, B6 AXR08/MDIOD/GP38, B7 AXR04/RMII_RXD0/AXR21/GP34, B8 AXR00/RMII_TXD0/AFSR2/GP30, C4 AFSR0/GP312, C5 ACLKX0/ECAP0/APWM0/GP212, C6 AXR09/UART1RXD/GP39, C7 AXR05/RMII_RXD1/AFSX2/GP35, C8 AXR01/RMII_TXD1/ACLKX2/GP31, D4 AMUTE1/EPWMTZ/GP414, D5 AFSX0/GP213/BOOT10, D6 AXR010/UART1TXD/GP310, D7 AXR06/RMII_RXER/ACLKR2/GP36, D8 AXR02/RMII_TXEN/AXR23/GP32, K2 AHCLKX1/EPWM0B/GP314, K3 ACLKX1/EPWM0A/GP315, K4 AFSX1/EPWMSYNCI/EPWMSYNCO/GP410, L1 AHCLKR1/GP411, L2 ACLKR1/ECAP2/APWM2/GP412, L3 AFSR1/GP413, L4 AMUTE0/!RESETOUT, M1 AXR19/GP49, M2 AXR18/EPWM1A/GP48, M3 AXR17/EPWM1B/GP47, M4 AXR16/EPWM2A/GP46, N1 AXR15/EPWM2B/GP45, N2 AXR14/EQEP1B/GP44, N3 AXR110/GP510, P1 AXR13/EQEP1A/GP43, P2 AXR12/GP42, R2 AXR11/GP41, T3 AXR10/GP40, T4 AXR111/GP511
part B pins: L16 ~{EMA_CAS/EMA_CS4/GP21}, M13 ~{EMA_WE/UHPIHRW/AXR012/GP23/BOOT14}, M14 ~{EMA_WEDQM0/UHPIHINT/AXR015/GP29}, M15 EMA_D7/MMCSDDAT7/UHPIHD7/GP07/BOOT13, M16 EMA_D15/UHPIHD15/LCDD15/GP015, N6 EMA_WAIT0/!UHPIHRDY!/GP210, N7 ~{EMA_RAS/EMA_CS5/GP22}, N8 EMA_A10/LCDVSYNC/GP110, N9 EMA_A3/LCDD6/GP13, N10 EMA_A7/LCDD0/GP17, N11 EMA_A12/LCDMCLK/GP112, N12 EMA_D8/UHPIHD8/LCDD8/GP08, N13 EMA_D6/MMCSDDAT6/UHPIHD6/GP06, N14 EMA_D14/UHPIHD14/LCDD14/GP014, N15 EMA_D5/MMCSDDAT5/UHPIHD5/GP05, N16 EMA_D13/UHPIHD13/LCDD13/GP013, P7 ~{EMA_CS2/UHPIHCS/GP25/BOOT15}, P8 EMA_BA1/LCDD5/UHPIHHWIL/GP113, P9 EMA_A2/MMCSDCMD/UHPIHCNTL1/GP12, P10 EMA_A6/LCDD1/GP16, P11 EMA_A11/!LCDACENBCS!/GP111, P12 ~{EMA_WEDQM1/UHPIHDS2/AXR014/GP28}, P13 EMA_D4/MMCSDDAT4/UHPIHD4/GP04, P14 EMA_D12/UHPIHD12/LCDD12/GP012, P15 EMA_D3/MMCSDDAT3/UHPIHD3/GP03, P16 EMA_D11/UHPIHD11/LCDD11/GP011, R7 ~{EMA_OE/UHPIHDS1/AXR013/GP27}, R8 EMA_BA0/LCDD4/GP114, R9 EMA_A1/MMCSDCLK/UHPIHCNTL0/GP11, R10 EMA_A5/LCDD2/GP15, R11 EMA_A9/LCDHSYNC/GP19, R12 EMA_CLK/OBSCLK/AHCLKR2/GP115, R13 EMA_D2/MMCSDDAT2/UHPIHD2/GP02, R14 EMA_D10/UHPIHD10/LCDD10/GP010, R15 EMA_D1/MMCSDDAT1/UHPIHD1/GP01, T7 ~{EMA_CS3/AMUTE2/GP26}, T8 ~{EMA_CS0/UHPIHAS/GP24}, T9 EMA_A0/LCDD7/GP10, T10 EMA_A4/LCDD3/GP14, T11 EMA_A8/LCDPCLK/GP18, T12 EMA_SDCKE/GP20, T13 EMA_D0/MMCSDDAT0/UHPIHD0/GP00/BOOT12, T14 EMA_D9/UHPIHD9/LCDD9/GP09
part C pins: A8 ~{EMB_RAS}, A9 EMB_A10/GP712, A10 EMB_A3/GP75, A11 EMB_A7/GP79, A12 ~{EMB_WEDQM3}, A13 EMB_D24, A14 EMB_D26, B9 EMB_BA1/GP70, B10 EMB_A2/GP74, B11 EMB_A6/GP78, B12 EMB_A11/GP713, B13 ~{EMB_WEDQM2}, B14 EMB_D25, B15 EMB_A12/GP313, C9 EMB_BA0/GP71, C10 EMB_A1/GP73, C11 EMB_A5/GP77, C12 EMB_A9/GP711, C13 EMB_SDCKE, C14 EMB_CLK, C15 ~{EMB_WEDQM1/GP514}, C16 EMB_D8/GP68, D9 ~{EMB_CS0}, D10 EMB_A0/GP72, D11 EMB_A4/GP76, D12 EMB_A8/GP710, D13 EMB_D9/GP69, D14 EMB_D10/GP610, D15 EMB_D11/GP611, D16 EMB_D12/GP612, E13 EMB_D13/GP613, E14 EMB_D27, E15 EMB_D28, E16 EMB_D14/GP614, F13 EMB_D15/GP615, F14 EMB_D29, F15 EMB_D30, F16 EMB_D0/GP60, G13 EMB_D1/GP61, G14 EMB_D31, G15 EMB_D16, G16 EMB_D2/GP62, H13 EMB_D3/GP63, H14 EMB_D17, H15 EMB_D18, H16 EMB_D4/GP64, J13 EMB_D5/GP65, J14 EMB_D19, J15 EMB_D6/GP66, J16 EMB_D7/GP67, K13 EMB_D20, K14 ~{EMB_WEDQM0/GP515}, K15 ~{EMB_WE}, K16 EMB_D21, L13 ~{EMB_CAS}, L14 EMB_D22, L15 EMB_D23
part D pins: A3 USB1/DP, B1 RSV2, B3 USB1/DM, D1 PLL0_VDDA (power), D2 USB0/ID, D3 USB0/VBUS, E1 PLL0_VSSA (power), E2 OSCVSS (power), E4 USB0DRVVBUS/GP415, F1 OSCOUT, F2 OSCIN, F3 NC1, F4 USB0/DP, F7 RSV1, G1 RTC_CVDD (power), G2 RTC_VSS (power), G3 ~{RESET}, G4 USB0/DM, H1 RTC/XI, H2 RTC/XO, H3 TCK, H4 NC2, J1 TMS, J2 TDI, J3 TDO (out), J4 ~{TRST}, J5 EMU0/GP715, K1 RTCK, N4 ~{SPI0_SCS0/UART0RTS/EQEP0B/GP54/BOOT4}, N5 SPI1_SIMO0/I2C1SDA/GP56/BOOT6, P3 UART0TXD/I2C0SCL/TM64P0OUT12/GP59/BOOT9, P4 ~{SPI1_SCS0/UART2TXD/GP513}, P5 SPI1_SOMI0/I2C1SCL/GP55/BOOT5, P6 SPI0_SIMO0/EQEP0S/GP51/BOOT1, R3 UART0RXD/I2C0SDA/TM64P0IN12/GP58/BOOT8, R4 ~{SPI1_ENA/UART2RXD/GP512}, R5 ~{SPI0_ENA/UART0CTS/EQEP0A/GP53/BOOT3}, R6 SPI0_SOMI0/EQEP0I/GP50/BOOT0, T5 SPI0_CLK/EQEP1I/GP52/BOOT2, T6 SPI1_CLK/EQEP1S/GP57/BOOT7
part E pins: A1 VSS (power), A2 VSS (power), A15 VSS (power), A16 VSS (power), B2 VSS (power), B16 VDD (power), C1 VDD (power), C2 VDD (power), C3 VDD (power), E3 VDD (power), E5 VDD (power), E6 VSS (power), E7 VSS (power), E8 VDD (power), E9 VDD (power), E10 VSS (power), E11 VSS (power), E12 VDD (power), F5 VDD (power), F6 VDD (power), F8 VSS (power), F9 VSS (power), F10 VSS (power), F11 VDD (power), F12 VDD (power), G5 VDD (power), G6 VDD (power), G7 VDD (power), G8 VSS (power), G9 VSS (power), G10 VDD (power), G11 VDD (power), G12 VDD (power), H5 VDD (power), H6 VDD (power), H7 VDD (power), H8 VSS (power), H9 VSS (power), H10 VDD (power), H11 VDD (power), H12 VDD (power), J6 VDD (power), J7 VDD (power), J8 VSS (power), J9 VSS (power), J10 VDD (power), J11 VDD (power), J12 VDD (power), K5 VDD (power), K6 VDD (power), K7 VDD (power), K8 VSS (power), K9 VSS (power), K10 VDD (power), K11 VDD (power), K12 VDD (power), L5 VDD (power), L6 VDD (power), L7 VSS (power), L8 VSS (power), L9 VSS (power), L10 VSS (power), L11 VDD (power), L12 VDD (power), M5 VDD (power), M6 VSS (power), M7 VSS (power), M8 VDD (power), M9 VDD (power), M10 VSS (power), M11 VSS (power), M12 VDD (power), R1 VDD (power), R16 VDD (power), T1 VSS (power), T2 VSS (power), T15 VSS (power), T16 VSS (power)

## OPA134PA
designator U?
SoundPlus(TM) High Performance Audio Operational Amplifier, 5 to 36 V, -40 to 85 degC, 8-pin DIP (P8), Green (RoHS & no Sb/Br); Vendor: TEXAS INSTRUMENTS
footprint TI-P8 (DIP, 8-Leads, Body 9.59x6.35mm, Pitch 2.54mm)
pins: 1 OFFSET TRIM (in), 2 IN- (in), 3 IN+ (in), 4 V- (power), 5 NC, 6 OUT (out), 7 V+ (power), 8 OFFSET TRIM (in)

## OPA134PAG4
designator U?
SoundPlus(TM) High Performance Audio Operational Amplifier, 5 to 36 V, -40 to 85 degC, 8-pin DIP (P8), Green (RoHS & no Sb/Br); Vendor: TEXAS INSTRUMENTS
footprint TI-P8 (DIP, 8-Leads, Body 9.59x6.35mm, Pitch 2.54mm)
pins: 1 OFFSET TRIM (in), 2 IN- (in), 3 IN+ (in), 4 V- (power), 5 NC, 6 OUT (out), 7 V+ (power), 8 OFFSET TRIM (in)

## OPA134UA
designator U?
SoundPlus(TM) High Performance Audio Operational Amplifier, 5 to 36 V, -40 to 85 degC, 8-pin SOIC (D8), Green (RoHS & no Sb/Br); Vendor: TEXAS INSTRUMENTS
footprint TI-D8_N (SOIC, 8-Leads, Body 4.9x3.9mm, Pitch 1.27mm, IPC Medium Density)
footprint TI-D8_L (SOIC, 8-Leads, Body 4.9x3.9mm, Pitch 1.27mm, IPC High Density)
footprint TI-D8_M (SOIC, 8-Leads, Body 4.9x3.9mm, Pitch 1.27mm, IPC Low Density)
pins: 1 OFFSET TRIM (in), 2 IN- (in), 3 IN+ (in), 4 V- (power), 5 NC, 6 OUT (out), 7 V+ (power), 8 OFFSET TRIM (in)

## OPA134UA/2K5
designator U?
SoundPlus(TM) High Performance Audio Operational Amplifier, 5 to 36 V, -40 to 85 degC, 8-pin SOIC (D8), Green (RoHS & no Sb/Br); Vendor: TEXAS INSTRUMENTS
footprint TI-D8_N (SOIC, 8-Leads, Body 4.9x3.9mm, Pitch 1.27mm, IPC Medium Density)
footprint TI-D8_L (SOIC, 8-Leads, Body 4.9x3.9mm, Pitch 1.27mm, IPC High Density)
footprint TI-D8_M (SOIC, 8-Leads, Body 4.9x3.9mm, Pitch 1.27mm, IPC Low Density)
pins: 1 OFFSET TRIM (in), 2 IN- (in), 3 IN+ (in), 4 V- (power), 5 NC, 6 OUT (out), 7 V+ (power), 8 OFFSET TRIM (in)

## OPA134UA/2K5E4
designator U?
SoundPlus(TM) High Performance Audio Operational Amplifier, 5 to 36 V, -40 to 85 degC, 8-pin SOIC (D8), Green (RoHS & no Sb/Br); Vendor: TEXAS INSTRUMENTS
footprint TI-D8_N (SOIC, 8-Leads, Body 4.9x3.9mm, Pitch 1.27mm, IPC Medium Density)
footprint TI-D8_L (SOIC, 8-Leads, Body 4.9x3.9mm, Pitch 1.27mm, IPC High Density)
footprint TI-D8_M (SOIC, 8-Leads, Body 4.9x3.9mm, Pitch 1.27mm, IPC Low Density)
pins: 1 OFFSET TRIM (in), 2 IN- (in), 3 IN+ (in), 4 V- (power), 5 NC, 6 OUT (out), 7 V+ (power), 8 OFFSET TRIM (in)

## OPA134UAE4
designator U?
SoundPlus(TM) High Performance Audio Operational Amplifier, 5 to 36 V, -40 to 85 degC, 8-pin SOIC (D8), Green (RoHS & no Sb/Br); Vendor: TEXAS INSTRUMENTS
footprint TI-D8_N (SOIC, 8-Leads, Body 4.9x3.9mm, Pitch 1.27mm, IPC Medium Density)
footprint TI-D8_L (SOIC, 8-Leads, Body 4.9x3.9mm, Pitch 1.27mm, IPC High Density)
footprint TI-D8_M (SOIC, 8-Leads, Body 4.9x3.9mm, Pitch 1.27mm, IPC Low Density)
pins: 1 OFFSET TRIM (in), 2 IN- (in), 3 IN+ (in), 4 V- (power), 5 NC, 6 OUT (out), 7 V+ (power), 8 OFFSET TRIM (in)

## OPA134UAG4
designator U?
SoundPlus(TM) High Performance Audio Operational Amplifier, 5 to 36 V, -40 to 85 degC, 8-pin SOIC (D8), Green (RoHS & no Sb/Br); Vendor: TEXAS INSTRUMENTS
footprint TI-D8_N (SOIC, 8-Leads, Body 4.9x3.9mm, Pitch 1.27mm, IPC Medium Density)
footprint TI-D8_L (SOIC, 8-Leads, Body 4.9x3.9mm, Pitch 1.27mm, IPC High Density)
footprint TI-D8_M (SOIC, 8-Leads, Body 4.9x3.9mm, Pitch 1.27mm, IPC Low Density)
pins: 1 OFFSET TRIM (in), 2 IN- (in), 3 IN+ (in), 4 V- (power), 5 NC, 6 OUT (out), 7 V+ (power), 8 OFFSET TRIM (in)

## OPA604AP
designator U?
FET-Input, Audio Operational Amplifier, 9 to 48 V, -25 to 85 degC, 8-pin DIP (P8), Green (RoHS & no Sb/Br); Vendor: TEXAS INSTRUMENTS
footprint TI-P8 (DIP, 8-Leads, Body 9.59x6.35mm, Pitch 2.54mm)
pins: 1 OFFSET TRIM (in), 2 IN- (in), 3 IN+ (in), 4 VS- (power), 5 OFFSET TRIM (in), 6 OUT (out), 7 VS+ (power), 8 NC

## OPA604APG4
designator U?
FET-Input, Audio Operational Amplifier, 9 to 48 V, -25 to 85 degC, 8-pin DIP (P8), Green (RoHS & no Sb/Br); Vendor: TEXAS INSTRUMENTS
footprint TI-P8 (DIP, 8-Leads, Body 9.59x6.35mm, Pitch 2.54mm)
pins: 1 OFFSET TRIM (in), 2 IN- (in), 3 IN+ (in), 4 VS- (power), 5 OFFSET TRIM (in), 6 OUT (out), 7 VS+ (power), 8 NC

## OPA604AU
designator U?
FET-Input, Audio Operational Amplifier, 9 to 48 V, -25 to 85 degC, 8-pin SOIC (D8), Green (RoHS & no Sb/Br); Vendor: TEXAS INSTRUMENTS
footprint TI-D8_N (SOIC, 8-Leads, Body 4.9x3.9mm, Pitch 1.27mm, IPC Medium Density)
footprint TI-D8_L (SOIC, 8-Leads, Body 4.9x3.9mm, Pitch 1.27mm, IPC High Density)
footprint TI-D8_M (SOIC, 8-Leads, Body 4.9x3.9mm, Pitch 1.27mm, IPC Low Density)
pins: 1 OFFSET TRIM (in), 2 IN- (in), 3 IN+ (in), 4 VS- (power), 5 OFFSET TRIM (in), 6 OUT (out), 7 VS+ (power), 8 NC

## OPA604AU/2K5
designator U?
FET-Input, Audio Operational Amplifier, 9 to 48 V, -25 to 85 degC, 8-pin SOIC (D8), Green (RoHS & no Sb/Br); Vendor: TEXAS INSTRUMENTS
footprint TI-D8_N (SOIC, 8-Leads, Body 4.9x3.9mm, Pitch 1.27mm, IPC Medium Density)
footprint TI-D8_L (SOIC, 8-Leads, Body 4.9x3.9mm, Pitch 1.27mm, IPC High Density)
footprint TI-D8_M (SOIC, 8-Leads, Body 4.9x3.9mm, Pitch 1.27mm, IPC Low Density)
pins: 1 OFFSET TRIM (in), 2 IN- (in), 3 IN+ (in), 4 VS- (power), 5 OFFSET TRIM (in), 6 OUT (out), 7 VS+ (power), 8 NC

## OPA604AU/2K5G4
designator U?
FET-Input, Audio Operational Amplifier, 9 to 48 V, -25 to 85 degC, 8-pin SOIC (D8), Green (RoHS & no Sb/Br); Vendor: TEXAS INSTRUMENTS
footprint TI-D8_N (SOIC, 8-Leads, Body 4.9x3.9mm, Pitch 1.27mm, IPC Medium Density)
footprint TI-D8_L (SOIC, 8-Leads, Body 4.9x3.9mm, Pitch 1.27mm, IPC High Density)
footprint TI-D8_M (SOIC, 8-Leads, Body 4.9x3.9mm, Pitch 1.27mm, IPC Low Density)
pins: 1 OFFSET TRIM (in), 2 IN- (in), 3 IN+ (in), 4 VS- (power), 5 OFFSET TRIM (in), 6 OUT (out), 7 VS+ (power), 8 NC

## OPA604AUE4
designator U?
FET-Input, Audio Operational Amplifier, 9 to 48 V, -25 to 85 degC, 8-pin SOIC (D8), Green (RoHS & no Sb/Br); Vendor: TEXAS INSTRUMENTS
footprint TI-D8_N (SOIC, 8-Leads, Body 4.9x3.9mm, Pitch 1.27mm, IPC Medium Density)
footprint TI-D8_L (SOIC, 8-Leads, Body 4.9x3.9mm, Pitch 1.27mm, IPC High Density)
footprint TI-D8_M (SOIC, 8-Leads, Body 4.9x3.9mm, Pitch 1.27mm, IPC Low Density)
pins: 1 OFFSET TRIM (in), 2 IN- (in), 3 IN+ (in), 4 VS- (power), 5 OFFSET TRIM (in), 6 OUT (out), 7 VS+ (power), 8 NC

## OPA1611AID
designator U?
1.1 nV/rtHz Noise, Low Power, Precision Operational Amplifier, 4.5 to 36 V, -40 to 85 degC, 8-pin SOIC (D8), Green (RoHS & no Sb/Br); Vendor: TEXAS INSTRUMENTS
footprint TI-D8_N (SOIC, 8-Leads, Body 4.9x3.9mm, Pitch 1.27mm, IPC Medium Density)
footprint TI-D8_L (SOIC, 8-Leads, Body 4.9x3.9mm, Pitch 1.27mm, IPC High Density)
footprint TI-D8_M (SOIC, 8-Leads, Body 4.9x3.9mm, Pitch 1.27mm, IPC Low Density)
part A pins: 2 IN- (in), 3 IN+ (in), 4 V- (power), 6 OUT (out), 7 V+ (power)
part B pins: 1 NC, 5 NC, 8 NC

## OPA1611AIDR
designator U?
1.1 nV/rtHz Noise, Low Power, Precision Operational Amplifier, 4.5 to 36 V, -40 to 85 degC, 8-pin SOIC (D8), Green (RoHS & no Sb/Br); Vendor: TEXAS INSTRUMENTS
footprint TI-D8_N (SOIC, 8-Leads, Body 4.9x3.9mm, Pitch 1.27mm, IPC Medium Density)
footprint TI-D8_L (SOIC, 8-Leads, Body 4.9x3.9mm, Pitch 1.27mm, IPC High Density)
footprint TI-D8_M (SOIC, 8-Leads, Body 4.9x3.9mm, Pitch 1.27mm, IPC Low Density)
part A pins: 2 IN- (in), 3 IN+ (in), 4 V- (power), 6 OUT (out), 7 V+ (power)
part B pins: 1 NC, 5 NC, 8 NC

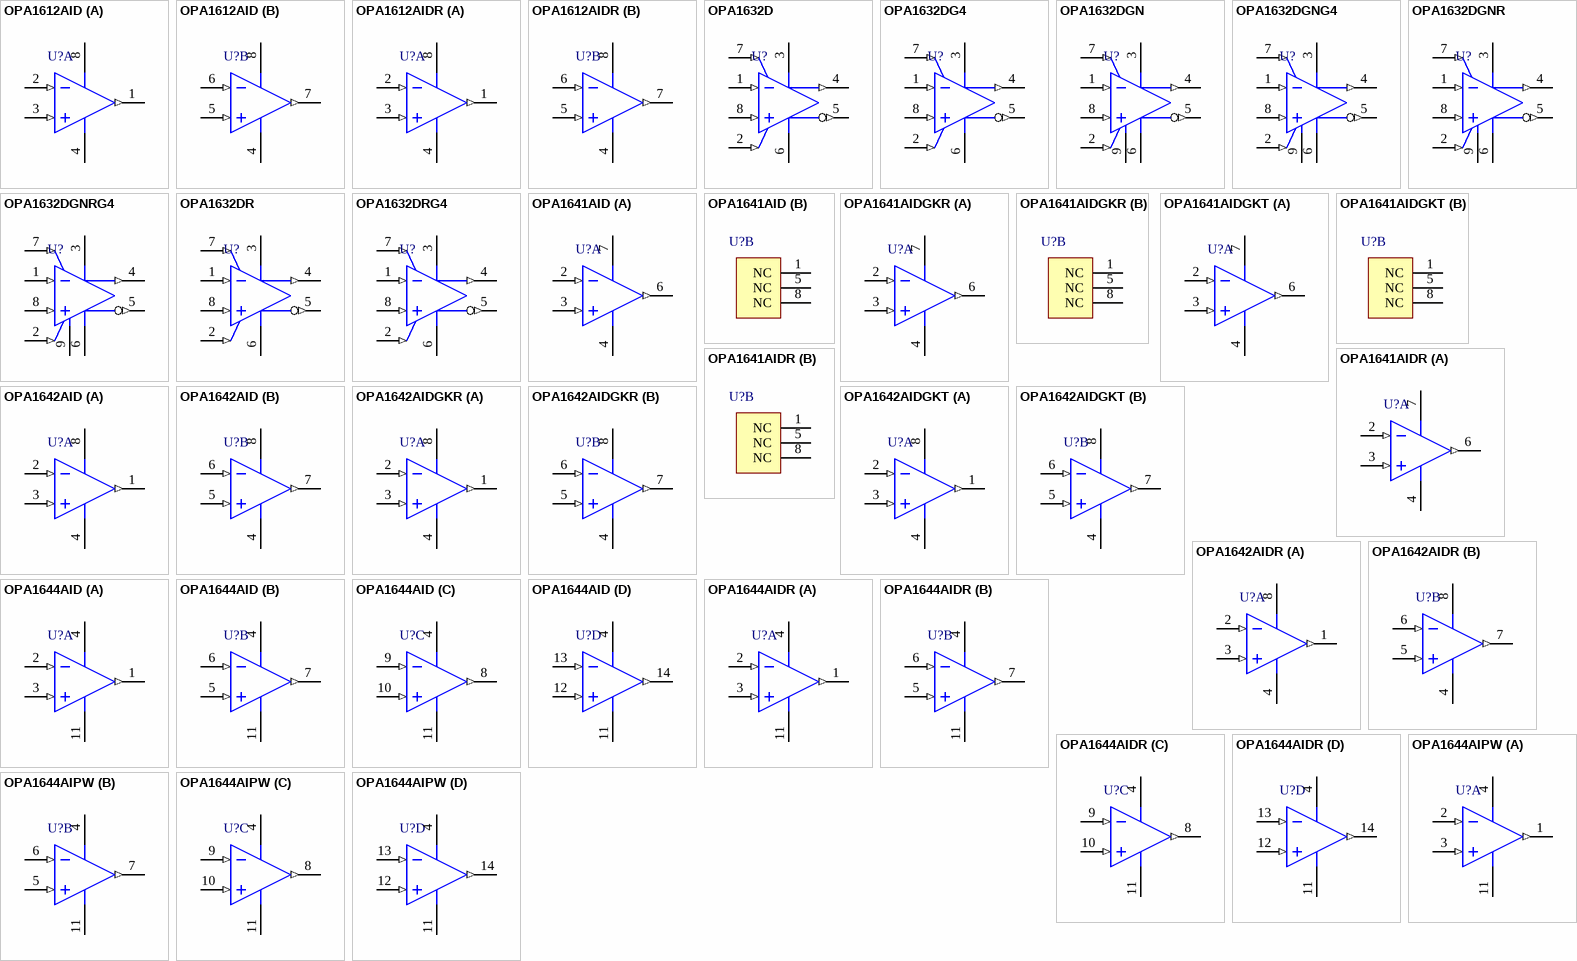
[diagram p8: symbols OPA1612AID to OPA1644AIPW]

## OPA1612AID
designator U?
1.1 nV/rtHz Noise, Low Power, Precision Operational Amplifier, 4.5 to 36 V, -40 to 85 degC, 8-pin SOIC (D8), Green (RoHS & no Sb/Br); Vendor: TEXAS INSTRUMENTS
footprint TI-D8_N (SOIC, 8-Leads, Body 4.9x3.9mm, Pitch 1.27mm, IPC Medium Density)
footprint TI-D8_L (SOIC, 8-Leads, Body 4.9x3.9mm, Pitch 1.27mm, IPC High Density)
footprint TI-D8_M (SOIC, 8-Leads, Body 4.9x3.9mm, Pitch 1.27mm, IPC Low Density)
pins on every part: 4 V- (power), 8 V+ (power)
part A pins: 1 OUT A (out), 2 IN A- (in), 3 IN A+ (in)
part B pins: 5 IN B+ (in), 6 IN B- (in), 7 OUT B (out)

## OPA1612AIDR
designator U?
1.1 nV/rtHz Noise, Low Power, Precision Operational Amplifier, 4.5 to 36 V, -40 to 85 degC, 8-pin SOIC (D8), Green (RoHS & no Sb/Br); Vendor: TEXAS INSTRUMENTS
footprint TI-D8_N (SOIC, 8-Leads, Body 4.9x3.9mm, Pitch 1.27mm, IPC Medium Density)
footprint TI-D8_L (SOIC, 8-Leads, Body 4.9x3.9mm, Pitch 1.27mm, IPC High Density)
footprint TI-D8_M (SOIC, 8-Leads, Body 4.9x3.9mm, Pitch 1.27mm, IPC Low Density)
pins on every part: 4 V- (power), 8 V+ (power)
part A pins: 1 OUT A (out), 2 IN A- (in), 3 IN A+ (in)
part B pins: 5 IN B+ (in), 6 IN B- (in), 7 OUT B (out)

## OPA1632D
designator U?
Fully Differential I/O Audio Amplifier, 5 to 32 V, -40 to 85 degC, 8-pin SOIC (D8), Green (RoHS & no Sb/Br); Vendor: TEXAS INSTRUMENTS
footprint TI-D8_N (SOIC, 8-Leads, Body 4.9x3.9mm, Pitch 1.27mm, IPC Medium Density)
footprint TI-D8_L (SOIC, 8-Leads, Body 4.9x3.9mm, Pitch 1.27mm, IPC High Density)
footprint TI-D8_M (SOIC, 8-Leads, Body 4.9x3.9mm, Pitch 1.27mm, IPC Low Density)
pins: 1 VIN- (in), 2 VOCM (in), 3 V+ (power), 4 VOUT+ (out), 5 VOUT- (out), 6 V- (power), 7 ENABLE (in), 8 VIN+ (in)

## OPA1632DG4
designator U?
Fully Differential I/O Audio Amplifier, 5 to 32 V, -40 to 85 degC, 8-pin SOIC (D8), Green (RoHS & no Sb/Br); Vendor: TEXAS INSTRUMENTS
footprint TI-D8_N (SOIC, 8-Leads, Body 4.9x3.9mm, Pitch 1.27mm, IPC Medium Density)
footprint TI-D8_L (SOIC, 8-Leads, Body 4.9x3.9mm, Pitch 1.27mm, IPC High Density)
footprint TI-D8_M (SOIC, 8-Leads, Body 4.9x3.9mm, Pitch 1.27mm, IPC Low Density)
pins: 1 VIN- (in), 2 VOCM (in), 3 V+ (power), 4 VOUT+ (out), 5 VOUT- (out), 6 V- (power), 7 ENABLE (in), 8 VIN+ (in)

## OPA1632DGN
designator U?
Fully Differential I/O Audio Amplifier, 5 to 32 V, -40 to 85 degC, 8-pin SOP (DGN8), Green (RoHS & no Sb/Br); Vendor: TEXAS INSTRUMENTS
footprint TI-DGN8-1760X1425TP_N (SOP, 8-Leads, Body 3x3mm, Pitch 0.65mm, Thermal Pad 1.76x1.425mm, IPC Medium Density)
footprint TI-DGN8-1760X1425TP_L (SOP, 8-Leads, Body 3x3mm, Pitch 0.65mm, Thermal Pad 1.76x1.425mm, IPC High Density)
footprint TI-DGN8-1760X1425TP_M (SOP, 8-Leads, Body 3x3mm, Pitch 0.65mm, Thermal Pad 1.76 x 1.425 mm, IPC Low Density)
pins: 1 VIN- (in), 2 VOCM (in), 3 V+ (power), 4 VOUT+ (out), 5 VOUT- (out), 6 V- (power), 7 ENABLE (in), 8 VIN+ (in), 9 EP

## OPA1632DGNG4
designator U?
Fully Differential I/O Audio Amplifier, 5 to 32 V, -40 to 85 degC, 8-pin SOP (DGN8), Green (RoHS & no Sb/Br); Vendor: TEXAS INSTRUMENTS
footprint TI-DGN8-1760X1425TP_N (SOP, 8-Leads, Body 3x3mm, Pitch 0.65mm, Thermal Pad 1.76x1.425mm, IPC Medium Density)
footprint TI-DGN8-1760X1425TP_L (SOP, 8-Leads, Body 3x3mm, Pitch 0.65mm, Thermal Pad 1.76x1.425mm, IPC High Density)
footprint TI-DGN8-1760X1425TP_M (SOP, 8-Leads, Body 3x3mm, Pitch 0.65mm, Thermal Pad 1.76 x 1.425 mm, IPC Low Density)
pins: 1 VIN- (in), 2 VOCM (in), 3 V+ (power), 4 VOUT+ (out), 5 VOUT- (out), 6 V- (power), 7 ENABLE (in), 8 VIN+ (in), 9 EP

## OPA1632DGNR
designator U?
Fully Differential I/O Audio Amplifier, 5 to 32 V, -40 to 85 degC, 8-pin SOP (DGN8), Green (RoHS & no Sb/Br); Vendor: TEXAS INSTRUMENTS
footprint TI-DGN8-1760X1425TP_N (SOP, 8-Leads, Body 3x3mm, Pitch 0.65mm, Thermal Pad 1.76x1.425mm, IPC Medium Density)
footprint TI-DGN8-1760X1425TP_L (SOP, 8-Leads, Body 3x3mm, Pitch 0.65mm, Thermal Pad 1.76x1.425mm, IPC High Density)
footprint TI-DGN8-1760X1425TP_M (SOP, 8-Leads, Body 3x3mm, Pitch 0.65mm, Thermal Pad 1.76 x 1.425 mm, IPC Low Density)
pins: 1 VIN- (in), 2 VOCM (in), 3 V+ (power), 4 VOUT+ (out), 5 VOUT- (out), 6 V- (power), 7 ENABLE (in), 8 VIN+ (in), 9 EP

## OPA1632DGNRG4
designator U?
Fully Differential I/O Audio Amplifier, 5 to 32 V, -40 to 85 degC, 8-pin SOP (DGN8), Green (RoHS & no Sb/Br); Vendor: TEXAS INSTRUMENTS
footprint TI-DGN8-1760X1425TP_N (SOP, 8-Leads, Body 3x3mm, Pitch 0.65mm, Thermal Pad 1.76x1.425mm, IPC Medium Density)
footprint TI-DGN8-1760X1425TP_L (SOP, 8-Leads, Body 3x3mm, Pitch 0.65mm, Thermal Pad 1.76x1.425mm, IPC High Density)
footprint TI-DGN8-1760X1425TP_M (SOP, 8-Leads, Body 3x3mm, Pitch 0.65mm, Thermal Pad 1.76 x 1.425 mm, IPC Low Density)
pins: 1 VIN- (in), 2 VOCM (in), 3 V+ (power), 4 VOUT+ (out), 5 VOUT- (out), 6 V- (power), 7 ENABLE (in), 8 VIN+ (in), 9 EP

## OPA1632DR
designator U?
Fully Differential I/O Audio Amplifier, 5 to 32 V, -40 to 85 degC, 8-pin SOIC (D8), Green (RoHS & no Sb/Br); Vendor: TEXAS INSTRUMENTS
footprint TI-D8_N (SOIC, 8-Leads, Body 4.9x3.9mm, Pitch 1.27mm, IPC Medium Density)
footprint TI-D8_L (SOIC, 8-Leads, Body 4.9x3.9mm, Pitch 1.27mm, IPC High Density)
footprint TI-D8_M (SOIC, 8-Leads, Body 4.9x3.9mm, Pitch 1.27mm, IPC Low Density)
pins: 1 VIN- (in), 2 VOCM (in), 3 V+ (power), 4 VOUT+ (out), 5 VOUT- (out), 6 V- (power), 7 ENABLE (in), 8 VIN+ (in)

## OPA1632DRG4
designator U?
Fully Differential I/O Audio Amplifier, 5 to 32 V, -40 to 85 degC, 8-pin SOIC (D8), Green (RoHS & no Sb/Br); Vendor: TEXAS INSTRUMENTS
footprint TI-D8_N (SOIC, 8-Leads, Body 4.9x3.9mm, Pitch 1.27mm, IPC Medium Density)
footprint TI-D8_L (SOIC, 8-Leads, Body 4.9x3.9mm, Pitch 1.27mm, IPC High Density)
footprint TI-D8_M (SOIC, 8-Leads, Body 4.9x3.9mm, Pitch 1.27mm, IPC Low Density)
pins: 1 VIN- (in), 2 VOCM (in), 3 V+ (power), 4 VOUT+ (out), 5 VOUT- (out), 6 V- (power), 7 ENABLE (in), 8 VIN+ (in)

## OPA1641AID
designator U?
Sound-Plus High-Performance, JFET-Input Audio Operational Amplifier, 4.5 to 36 V, -40 to 85 degC, 8-pin SOIC (D8), Green (RoHS & no Sb/Br); Vendor: TEXAS INSTRUMENTS
footprint TI-D8_N (SOIC, 8-Leads, Body 4.9x3.9mm, Pitch 1.27mm, IPC Medium Density)
footprint TI-D8_L (SOIC, 8-Leads, Body 4.9x3.9mm, Pitch 1.27mm, IPC High Density)
footprint TI-D8_M (SOIC, 8-Leads, Body 4.9x3.9mm, Pitch 1.27mm, IPC Low Density)
part A pins: 2 IN- (in), 3 IN+ (in), 4 V- (power), 6 OUT (out), 7 V+ (power)
part B pins: 1 NC, 5 NC, 8 NC

## OPA1641AIDGKR
designator U?
Sound-Plus High-Performance, JFET-Input Audio Operational Amplifier, 4.5 to 36 V, -40 to 85 degC, 8-pin SOP (DGK8), Green (RoHS & no Sb/Br); Vendor: TEXAS INSTRUMENTS
footprint TI-DGK8_N (SOP, 8-Leads, Body 3x3mm, Pitch 0.65mm, IPC Medium Density)
footprint TI-DGK8_L (SOP, 8-Leads, Body 3x3mm, Pitch 0.65mm, IPC High Density)
footprint TI-DGK8_M (SOP, 8-Leads, Body 3x3mm, Pitch 0.65mm, IPC Low Density)
part A pins: 2 IN- (in), 3 IN+ (in), 4 V- (power), 6 OUT (out), 7 V+ (power)
part B pins: 1 NC, 5 NC, 8 NC

## OPA1641AIDGKT
designator U?
Sound-Plus High-Performance, JFET-Input Audio Operational Amplifier, 4.5 to 36 V, -40 to 85 degC, 8-pin SOP (DGK8), Green (RoHS & no Sb/Br); Vendor: TEXAS INSTRUMENTS
footprint TI-DGK8_N (SOP, 8-Leads, Body 3x3mm, Pitch 0.65mm, IPC Medium Density)
footprint TI-DGK8_L (SOP, 8-Leads, Body 3x3mm, Pitch 0.65mm, IPC High Density)
footprint TI-DGK8_M (SOP, 8-Leads, Body 3x3mm, Pitch 0.65mm, IPC Low Density)
part A pins: 2 IN- (in), 3 IN+ (in), 4 V- (power), 6 OUT (out), 7 V+ (power)
part B pins: 1 NC, 5 NC, 8 NC

## OPA1641AIDR
designator U?
Sound-Plus High-Performance, JFET-Input Audio Operational Amplifier, 4.5 to 36 V, -40 to 85 degC, 8-pin SOIC (D8), Green (RoHS & no Sb/Br); Vendor: TEXAS INSTRUMENTS
footprint TI-D8_N (SOIC, 8-Leads, Body 4.9x3.9mm, Pitch 1.27mm, IPC Medium Density)
footprint TI-D8_L (SOIC, 8-Leads, Body 4.9x3.9mm, Pitch 1.27mm, IPC High Density)
footprint TI-D8_M (SOIC, 8-Leads, Body 4.9x3.9mm, Pitch 1.27mm, IPC Low Density)
part A pins: 2 IN- (in), 3 IN+ (in), 4 V- (power), 6 OUT (out), 7 V+ (power)
part B pins: 1 NC, 5 NC, 8 NC

## OPA1642AID
designator U?
Sound-Plus High-Performance, JFET-Input Audio Operational Amplifier, 4.5 to 36 V, -40 to 85 degC, 8-pin SOIC (D8), Green (RoHS & no Sb/Br); Vendor: TEXAS INSTRUMENTS
footprint TI-D8_N (SOIC, 8-Leads, Body 4.9x3.9mm, Pitch 1.27mm, IPC Medium Density)
footprint TI-D8_L (SOIC, 8-Leads, Body 4.9x3.9mm, Pitch 1.27mm, IPC High Density)
footprint TI-D8_M (SOIC, 8-Leads, Body 4.9x3.9mm, Pitch 1.27mm, IPC Low Density)
pins on every part: 4 V- (power), 8 V+ (power)
part A pins: 1 OUT A (out), 2 IN A- (in), 3 IN A+ (in)
part B pins: 5 IN B+ (in), 6 IN B- (in), 7 OUT B (out)

## OPA1642AIDGKR
designator U?
Sound-Plus High-Performance, JFET-Input Audio Operational Amplifier, 4.5 to 36 V, -40 to 85 degC, 8-pin SOP (DGK8), Green (RoHS & no Sb/Br); Vendor: TEXAS INSTRUMENTS
footprint TI-DGK8_N (SOP, 8-Leads, Body 3x3mm, Pitch 0.65mm, IPC Medium Density)
footprint TI-DGK8_L (SOP, 8-Leads, Body 3x3mm, Pitch 0.65mm, IPC High Density)
footprint TI-DGK8_M (SOP, 8-Leads, Body 3x3mm, Pitch 0.65mm, IPC Low Density)
pins on every part: 4 V- (power), 8 V+ (power)
part A pins: 1 OUT A (out), 2 IN A- (in), 3 IN A+ (in)
part B pins: 5 IN B+ (in), 6 IN B- (in), 7 OUT B (out)

## OPA1642AIDGKT
designator U?
Sound-Plus High-Performance, JFET-Input Audio Operational Amplifier, 4.5 to 36 V, -40 to 85 degC, 8-pin SOP (DGK8), Green (RoHS & no Sb/Br); Vendor: TEXAS INSTRUMENTS
footprint TI-DGK8_N (SOP, 8-Leads, Body 3x3mm, Pitch 0.65mm, IPC Medium Density)
footprint TI-DGK8_L (SOP, 8-Leads, Body 3x3mm, Pitch 0.65mm, IPC High Density)
footprint TI-DGK8_M (SOP, 8-Leads, Body 3x3mm, Pitch 0.65mm, IPC Low Density)
pins on every part: 4 V- (power), 8 V+ (power)
part A pins: 1 OUT A (out), 2 IN A- (in), 3 IN A+ (in)
part B pins: 5 IN B+ (in), 6 IN B- (in), 7 OUT B (out)

## OPA1642AIDR
designator U?
Sound-Plus High-Performance, JFET-Input Audio Operational Amplifier, 4.5 to 36 V, -40 to 85 degC, 8-pin SOIC (D8), Green (RoHS & no Sb/Br); Vendor: TEXAS INSTRUMENTS
footprint TI-D8_N (SOIC, 8-Leads, Body 4.9x3.9mm, Pitch 1.27mm, IPC Medium Density)
footprint TI-D8_L (SOIC, 8-Leads, Body 4.9x3.9mm, Pitch 1.27mm, IPC High Density)
footprint TI-D8_M (SOIC, 8-Leads, Body 4.9x3.9mm, Pitch 1.27mm, IPC Low Density)
pins on every part: 4 V- (power), 8 V+ (power)
part A pins: 1 OUT A (out), 2 IN A- (in), 3 IN A+ (in)
part B pins: 5 IN B+ (in), 6 IN B- (in), 7 OUT B (out)

## OPA1644AID
designator U?
SoundPLUS(TM) High-Performance, JFET-Input Audio Operational Amplifier, 4.5 to 36 V, -40 to 85 degC, 14-pin SOIC (D14), Green (RoHS & no Sb/Br); Vendor: TEXAS INSTRUMENTS
footprint TI-D14_N (SOIC, 14-Leads, Body 8.65x3.9mm, Pitch 1.27mm, IPC Medium Density)
footprint TI-D14_L (SOIC, 14-Leads, Body 8.65x3.9mm, Pitch 1.27mm, IPC High Density)
footprint TI-D14_M (SOIC, 14-Leads, Body 8.65x3.9mm, Pitch 1.27mm, IPC Low Density)
pins on every part: 4 V+ (power), 11 V- (power)
part A pins: 1 VOUT A (out), 2 IN A- (in), 3 IN A+ (in)
part B pins: 5 IN B+ (in), 6 IN B- (in), 7 VOUT B (out)
part C pins: 8 VOUT C (out), 9 IN C- (in), 10 IN C+ (in)
part D pins: 12 IN D+ (in), 13 IN D- (in), 14 VOUT D (out)

## OPA1644AIDR
designator U?
SoundPLUS(TM) High-Performance, JFET-Input Audio Operational Amplifier, 4.5 to 36 V, -40 to 85 degC, 14-pin SOIC (D14), Green (RoHS & no Sb/Br); Vendor: TEXAS INSTRUMENTS
footprint TI-D14_N (SOIC, 14-Leads, Body 8.65x3.9mm, Pitch 1.27mm, IPC Medium Density)
footprint TI-D14_L (SOIC, 14-Leads, Body 8.65x3.9mm, Pitch 1.27mm, IPC High Density)
footprint TI-D14_M (SOIC, 14-Leads, Body 8.65x3.9mm, Pitch 1.27mm, IPC Low Density)
pins on every part: 4 V+ (power), 11 V- (power)
part A pins: 1 VOUT A (out), 2 IN A- (in), 3 IN A+ (in)
part B pins: 5 IN B+ (in), 6 IN B- (in), 7 VOUT B (out)
part C pins: 8 VOUT C (out), 9 IN C- (in), 10 IN C+ (in)
part D pins: 12 IN D+ (in), 13 IN D- (in), 14 VOUT D (out)

## OPA1644AIPW
designator U?
SoundPLUS(TM) High-Performance, JFET-Input Audio Operational Amplifier, 4.5 to 36 V, -40 to 85 degC, 14-pin SOP (PW14), Green (RoHS & no Sb/Br); Vendor: TEXAS INSTRUMENTS
footprint TI-PW14_N (SOP, 14-Leads, Body 5x4.4mm, Pitch 0.65mm, IPC Medium Density)
footprint TI-PW14_L (SOP, 14-Leads, Body 5x4.4mm, Pitch 0.65mm, IPC High Density)
footprint TI-PW14_M (SOP, 14-Leads, Body 5x4.4mm, Pitch 0.65mm, IPC Low Density)
pins on every part: 4 V+ (power), 11 V- (power)
part A pins: 1 VOUT A (out), 2 IN A- (in), 3 IN A+ (in)
part B pins: 5 IN B+ (in), 6 IN B- (in), 7 VOUT B (out)
part C pins: 8 VOUT C (out), 9 IN C- (in), 10 IN C+ (in)
part D pins: 12 IN D+ (in), 13 IN D- (in), 14 VOUT D (out)

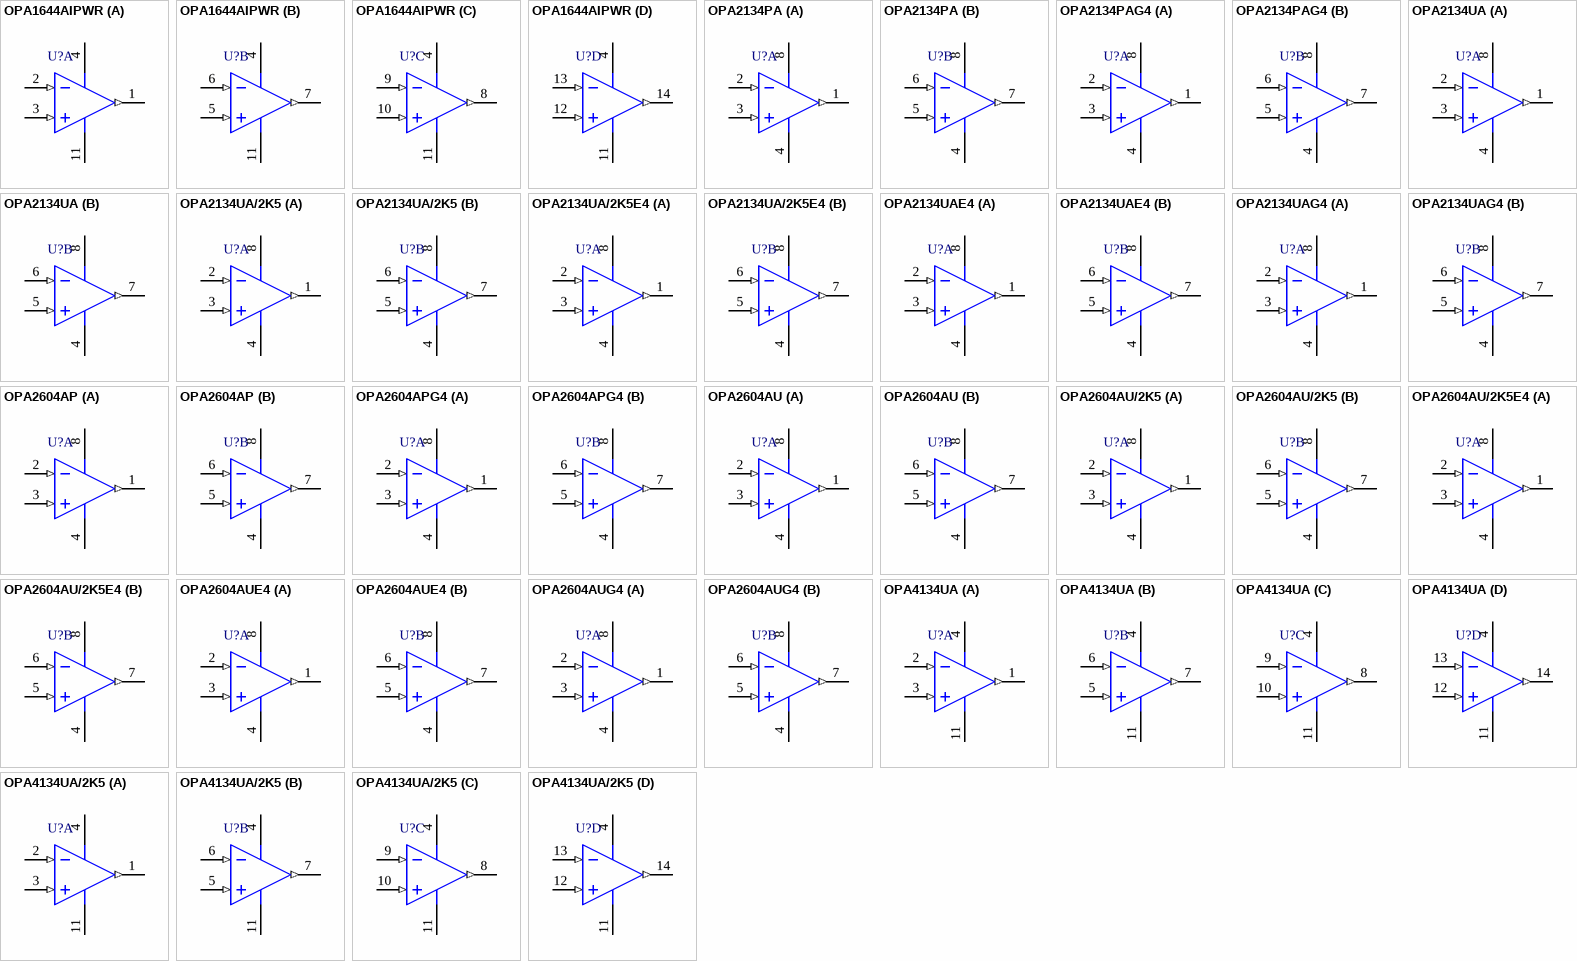
[diagram p9: symbols OPA1644AIPWR to OPA4134UA/2K5]

## OPA1644AIPWR
designator U?
SoundPLUS(TM) High-Performance, JFET-Input Audio Operational Amplifier, 4.5 to 36 V, -40 to 85 degC, 14-pin SOP (PW14), Green (RoHS & no Sb/Br); Vendor: TEXAS INSTRUMENTS
footprint TI-PW14_N (SOP, 14-Leads, Body 5x4.4mm, Pitch 0.65mm, IPC Medium Density)
footprint TI-PW14_L (SOP, 14-Leads, Body 5x4.4mm, Pitch 0.65mm, IPC High Density)
footprint TI-PW14_M (SOP, 14-Leads, Body 5x4.4mm, Pitch 0.65mm, IPC Low Density)
pins on every part: 4 V+ (power), 11 V- (power)
part A pins: 1 VOUT A (out), 2 IN A- (in), 3 IN A+ (in)
part B pins: 5 IN B+ (in), 6 IN B- (in), 7 VOUT B (out)
part C pins: 8 VOUT C (out), 9 IN C- (in), 10 IN C+ (in)
part D pins: 12 IN D+ (in), 13 IN D- (in), 14 VOUT D (out)